# Altium integrated library Maxim Microcontroller.IntLib: 169 symbols (part 3 of 6)
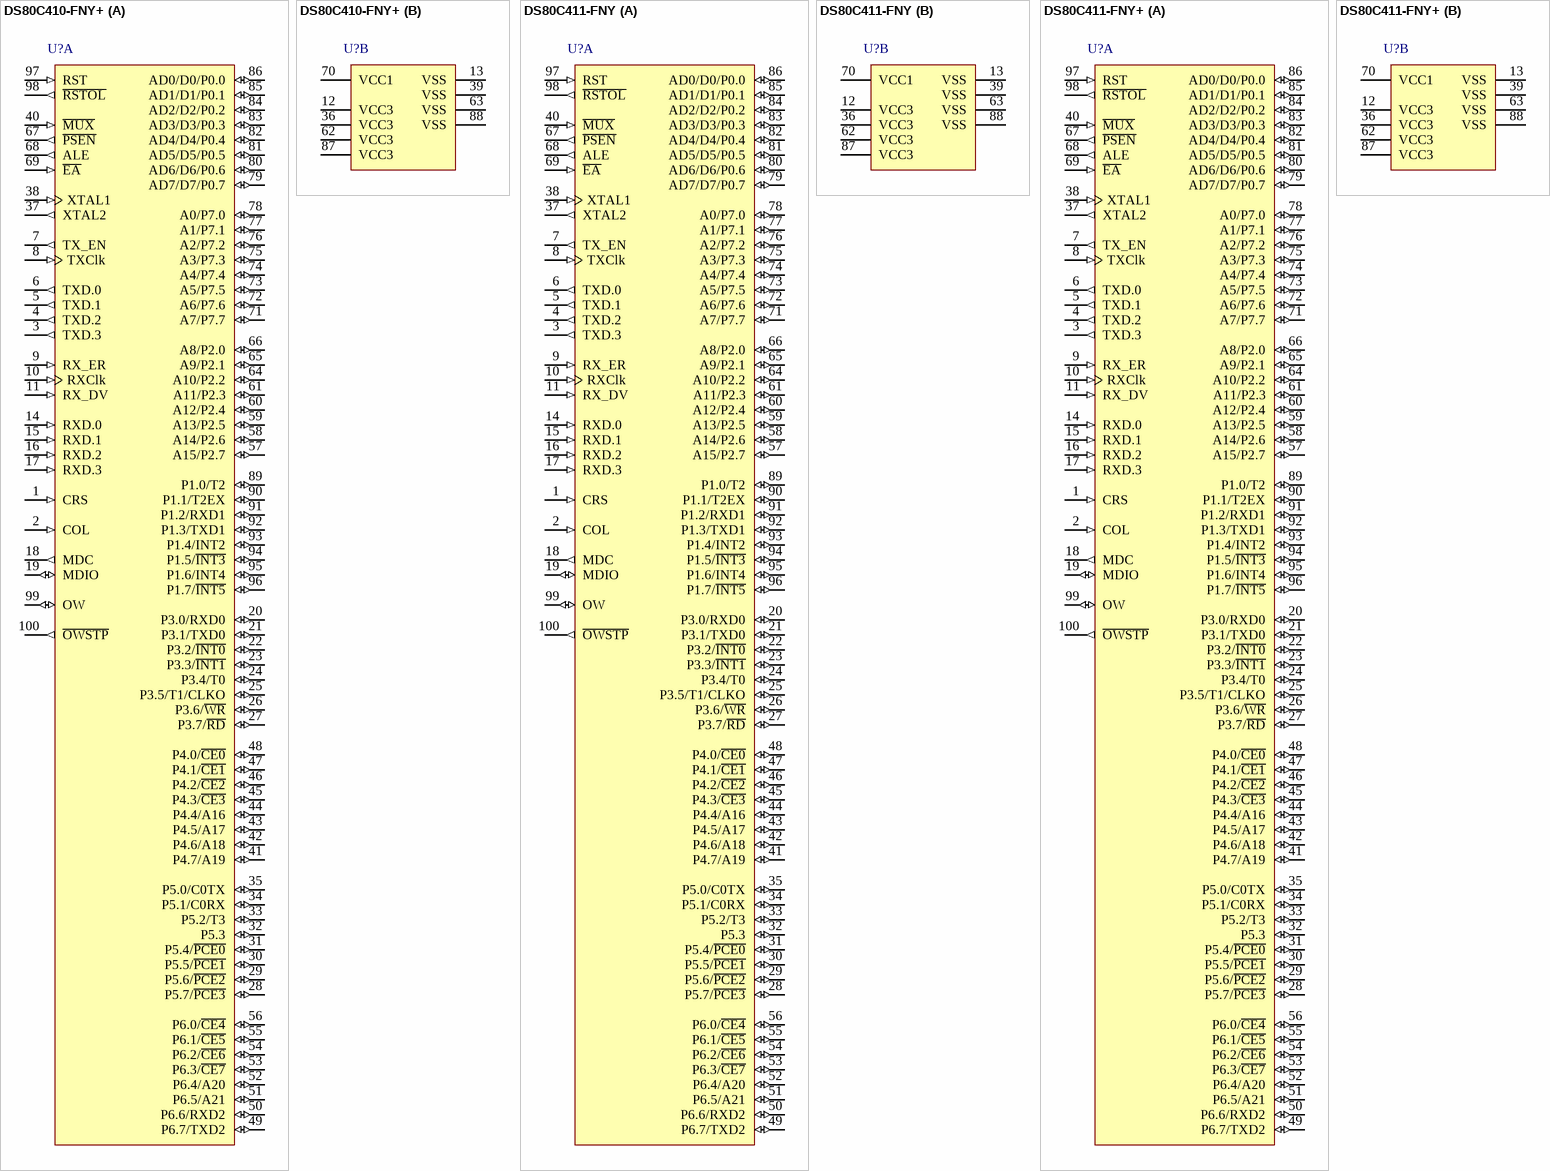
[diagram p26: symbols DS80C410-FNY+ to DS80C411-FNY+]

## DS80C411-FNY+
designator U?
8-bit Network Microcontroller with Ethernet and CAN, 75 MHz Max. Clock Speed, 100-pin LQFP, -40° to + 85° C, Pb-Free; DatasheetVersion: 1/06/2009; PackageVersion: revB, 2009; PackageReference: C100L+1; PackageDescription: 100-Pin Low Quad Flatpack, 14 x 14 x 1.4 mm Body, 0.5 mm Pitch, LQFP, Pb-Free; ComponentLink1Description: Manufacturer URL; ComponentLink1URL: www.maxim-ic.com; ComponentLink2Description: Datasheet; ComponentLink2URL: http://datasheets.maxim-ic.com/en/ds/DS80C410-DS80C411.pdf
footprint C100L+1_N (Thin QFP, 100-Leads, Body 14x14mm, Pitch 0.5mm, IPC Medium Density)
footprint C100L+1_L (Thin QFP, 100-Leads, Body 14x14mm, Pitch 0.5mm, IPC High Density)
footprint C100L+1_M (Thin QFP, 100-Leads, Body 14x14mm, Pitch 0.5mm, IPC Low Density)
part A pins: 1 CRS (in), 2 COL (in), 3 TXD.3 (out), 4 TXD.2 (out), 5 TXD.1 (out), 6 TXD.0 (out), 7 TX_EN (out), 8 TXClk (in), 9 RX_ER (in), 10 RXClk (in), 11 RX_DV (in), 14 RXD.0 (in), 15 RXD.1 (in), 16 RXD.2 (in), 17 RXD.3 (in), 18 MDC (out), 19 MDIO (io), 20 P3.0/RXD0 (io), 21 P3.1/TXD0 (io), 22 P3.2/~{INT0} (io), 23 P3.3/~{INT1} (io), 24 P3.4/T0 (io), 25 P3.5/T1/CLKO (io), 26 P3.6/~{WR} (io), 27 P3.7/~{RD} (io), 28 P5.7/~{PCE3} (io), 29 P5.6/~{PCE2} (io), 30 P5.5/~{PCE1} (io), 31 P5.4/~{PCE0} (io), 32 P5.3 (io), 33 P5.2/T3 (io), 34 P5.1/C0RX (io), 35 P5.0/C0TX (io), 37 XTAL2 (out), 38 XTAL1 (in), 40 ~{MUX} (in), 41 P4.7/A19 (io), 42 P4.6/A18 (io), 43 P4.5/A17 (io), 44 P4.4/A16 (io), 45 P4.3/~{CE3} (io), 46 P4.2/~{CE2} (io), 47 P4.1/~{CE1} (io), 48 P4.0/~{CE0} (io), 49 P6.7/TXD2 (io), 50 P6.6/RXD2 (io), 51 P6.5/A21 (io), 52 P6.4/A20 (io), 53 P6.3/~{CE7} (io), 54 P6.2/~{CE6} (io), 55 P6.1/~{CE5} (io), 56 P6.0/~{CE4} (io), 57 A15/P2.7 (io), 58 A14/P2.6 (io), 59 A13/P2.5 (io), 60 A12/P2.4 (io), 61 A11/P2.3 (io), 64 A10/P2.2 (io), 65 A9/P2.1 (io), 66 A8/P2.0 (io), 67 ~{PSEN} (out), 68 ALE (out), 69 ~{EA} (in), 71 A7/P7.7 (io), 72 A6/P7.6 (io), 73 A5/P7.5 (io), 74 A4/P7.4 (io), 75 A3/P7.3 (io), 76 A2/P7.2 (io), 77 A1/P7.1 (io), 78 A0/P7.0 (io), 79 AD7/D7/P0.7 (io), 80 AD6/D6/P0.6 (io), 81 AD5/D5/P0.5 (io), 82 AD4/D4/P0.4 (io), 83 AD3/D3/P0.3 (io), 84 AD2/D2/P0.2 (io), 85 AD1/D1/P0.1 (io), 86 AD0/D0/P0.0 (io), 89 P1.0/T2 (io), 90 P1.1/T2EX (io), 91 P1.2/RXD1 (io), 92 P1.3/TXD1 (io), 93 P1.4/INT2 (io), 94 P1.5/~{INT3} (io), 95 P1.6/INT4 (io), 96 P1.7/~{INT5} (io), 97 RST (in), 98 ~{RSTOL} (out), 99 OW (io), 100 ~{OWSTP} (out)
part B pins: 12 VCC3 (power), 13 VSS (power), 36 VCC3 (power), 39 VSS (power), 62 VCC3 (power), 63 VSS (power), 70 VCC1 (power), 87 VCC3 (power), 88 VSS (power)

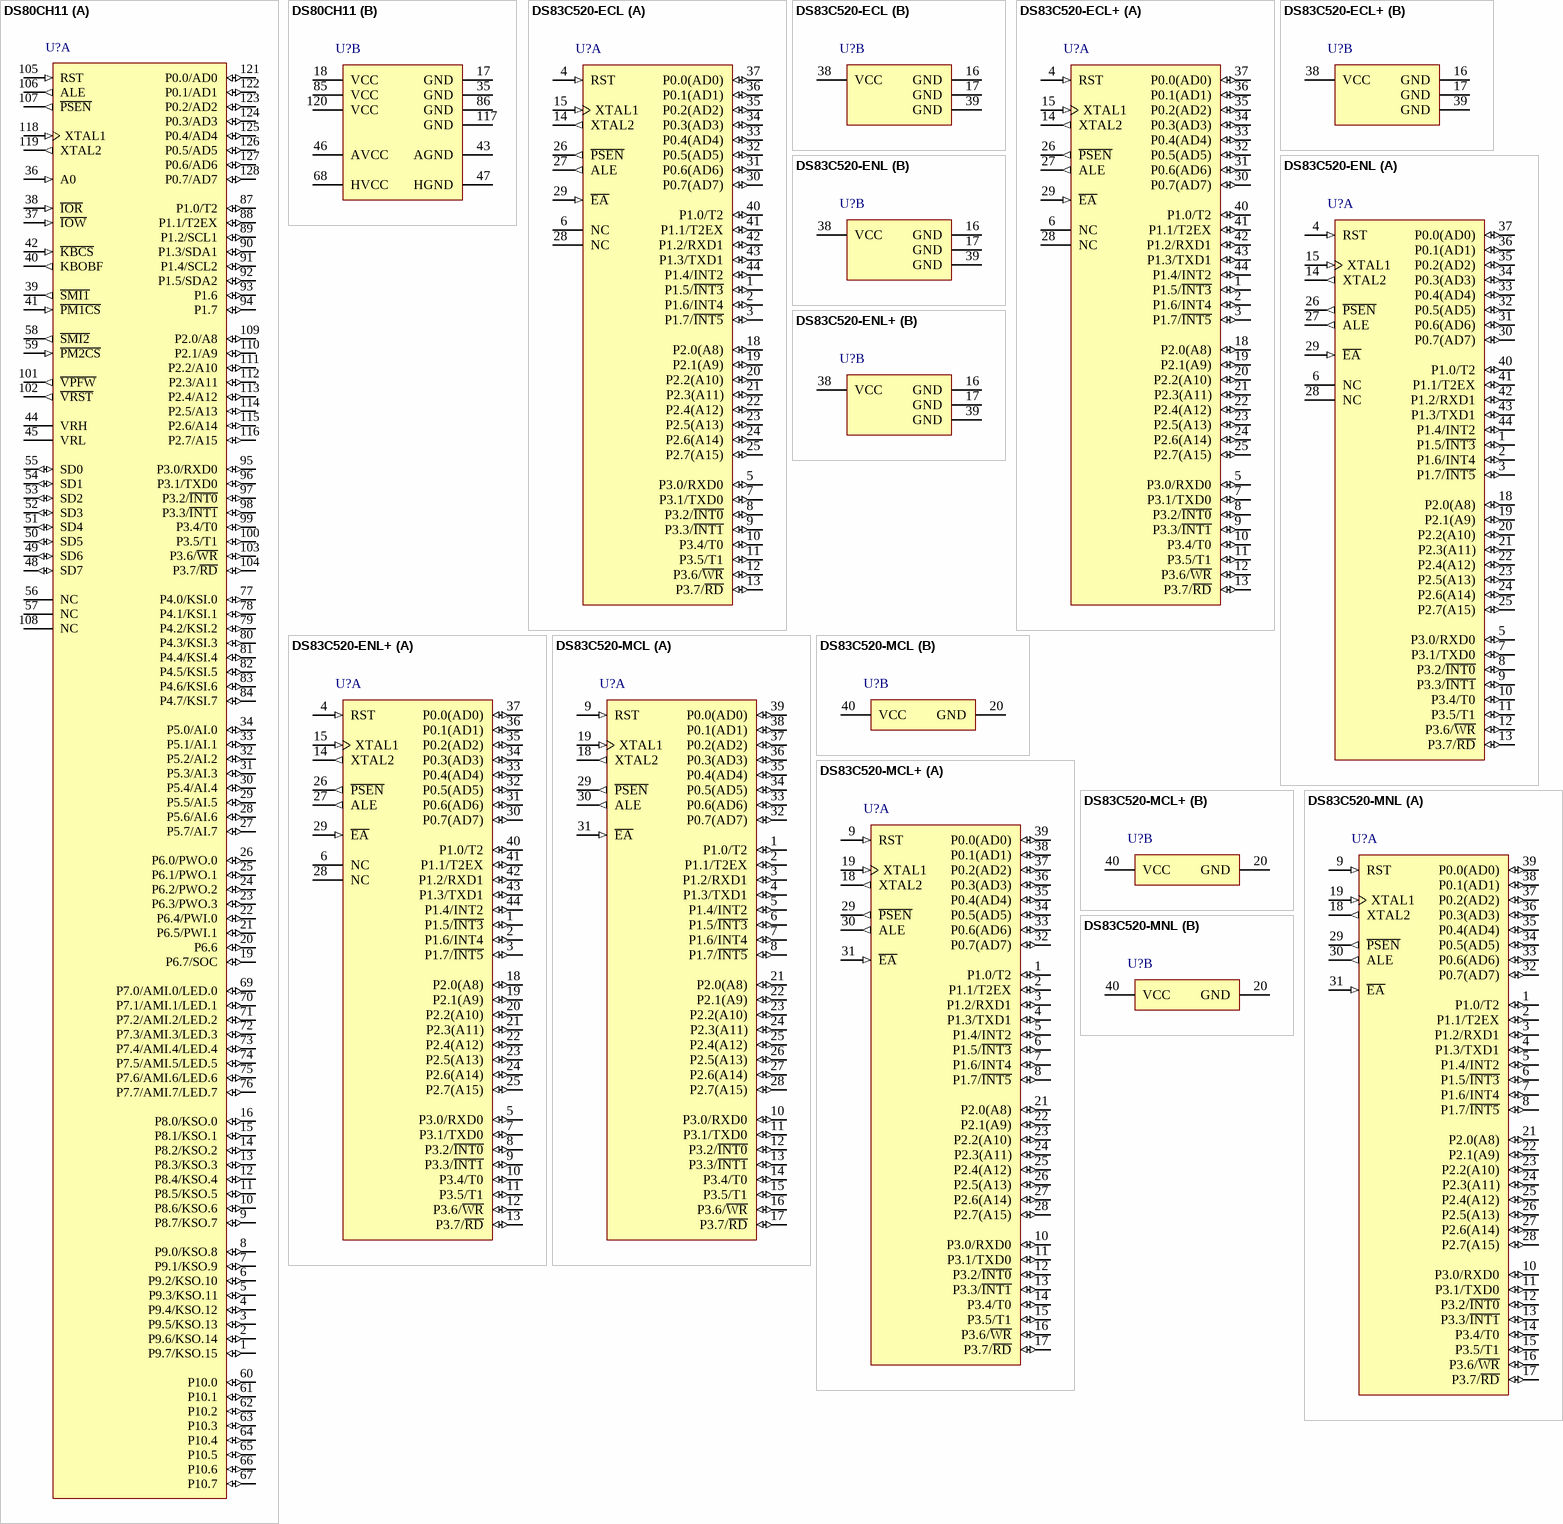
[diagram p9: symbols DS80CH11 to DS83C520-MNL]

## DS80CH11
designator U?
8-bit System Energy Manager, 25 MHz Max. Clock Speed, 12-pin 8 TQFP; DatasheetVersion: 1/02/2000; PackageVersion: 2/02/2000; PackageReference: TQFP128; PackageDescription: 128-Pin Thin Quad Flat Pack Rectangular 0.5 mm Pitch; ComponentLink1Description: Manufacturer URL; ComponentLink1URL: www.maxim-ic.com; ComponentLink2Description: Datasheet; ComponentLink2URL: http://datasheets.maxim-ic.com/en/ds/DS80CH11.pdf
footprint TQFP128_N (Thin QFP, 128-Leads, Body 20x14 mm, Pitch 0.5mm, IPC Medium Density)
footprint TQFP128_L (Thin QFP, 128-Leads, Body 20x14 mm, Pitch 0.5mm, IPC High Density)
footprint TQFP128_M (Thin QFP, 128-Leads, Body 20x14 mm, Pitch 0.5mm, IPC Low Density)
part A pins: 1 P9.7/KSO.15 (io), 2 P9.6/KSO.14 (io), 3 P9.5/KSO.13 (io), 4 P9.4/KSO.12 (io), 5 P9.3/KSO.11 (io), 6 P9.2/KSO.10 (io), 7 P9.1/KSO.9 (io), 8 P9.0/KSO.8 (io), 9 P8.7/KSO.7 (io), 10 P8.6/KSO.6 (io), 11 P8.5/KSO.5 (io), 12 P8.4/KSO.4 (io), 13 P8.3/KSO.3 (io), 14 P8.2/KSO.2 (io), 15 P8.1/KSO.1 (io), 16 P8.0/KSO.0 (io), 19 P6.7/SOC (io), 20 P6.6 (io), 21 P6.5/PWI.1 (io), 22 P6.4/PWI.0 (io), 23 P6.3/PWO.3 (io), 24 P6.2/PWO.2 (io), 25 P6.1/PWO.1 (io), 26 P6.0/PWO.0 (io), 27 P5.7/AI.7 (io), 28 P5.6/AI.6 (io), 29 P5.5/AI.5 (io), 30 P5.4/AI.4 (io), 31 P5.3/AI.3 (io), 32 P5.2/AI.2 (io), 33 P5.1/AI.1 (io), 34 P5.0/AI.0 (io), 36 A0 (in), 37 ~{IOW} (in), 38 ~{IOR} (in), 39 ~{SMI1} (out), 40 KBOBF (out), 41 ~{PM1CS} (in), 42 ~{KBCS} (in), 44 VRH, 45 VRL, 48 SD7 (io), 49 SD6 (io), 50 SD5 (io), 51 SD4 (io), 52 SD3 (io), 53 SD2 (io), 54 SD1 (io), 55 SD0 (io), 56 NC, 57 NC, 58 ~{SMI2} (out), 59 ~{PM2CS} (in), 60 P10.0 (io), 61 P10.1 (io), 62 P10.2 (io), 63 P10.3 (io), 64 P10.4 (io), 65 P10.5 (io), 66 P10.6 (io), 67 P10.7 (io), 69 P7.0/AMI.0/LED.0 (io), 70 P7.1/AMI.1/LED.1 (io), 71 P7.2/AMI.2/LED.2 (io), 72 P7.3/AMI.3/LED.3 (io), 73 P7.4/AMI.4/LED.4 (io), 74 P7.5/AMI.5/LED.5 (io), 75 P7.6/AMI.6/LED.6 (io), 76 P7.7/AMI.7/LED.7 (io), 77 P4.0/KSI.0 (io), 78 P4.1/KSI.1 (io), 79 P4.2/KSI.2 (io), 80 P4.3/KSI.3 (io), 81 P4.4/KSI.4 (io), 82 P4.5/KSI.5 (io), 83 P4.6/KSI.6 (io), 84 P4.7/KSI.7 (io), 87 P1.0/T2 (io), 88 P1.1/T2EX (io), 89 P1.2/SCL1 (io), 90 P1.3/SDA1 (io), 91 P1.4/SCL2 (io), 92 P1.5/SDA2 (io), 93 P1.6 (io), 94 P1.7 (io), 95 P3.0/RXD0 (io), 96 P3.1/TXD0 (io), 97 P3.2/~{INT0} (io), 98 P3.3/~{INT1} (io), 99 P3.4/T0 (io), 100 P3.5/T1 (io), 101 ~{VPFW} (out), 102 ~{VRST} (out), 103 P3.6/~{WR} (io), 104 P3.7/~{RD} (io), 105 RST (in), 106 ALE (out), 107 ~{PSEN} (out), 108 NC, 109 P2.0/A8 (io), 110 P2.1/A9 (io), 111 P2.2/A10 (io), 112 P2.3/A11 (io), 113 P2.4/A12 (io), 114 P2.5/A13 (io), 115 P2.6/A14 (io), 116 P2.7/A15 (io), 118 XTAL1 (in), 119 XTAL2 (out), 121 P0.0/AD0 (io), 122 P0.1/AD1 (io), 123 P0.2/AD2 (io), 124 P0.3/AD3 (io), 125 P0.4/AD4 (io), 126 P0.5/AD5 (io), 127 P0.6/AD6 (io), 128 P0.7/AD7 (io)
part B pins: 17 GND (power), 18 VCC (power), 35 GND (power), 43 AGND (power), 46 AVCC (power), 47 HGND (power), 68 HVCC (power), 85 VCC (power), 86 GND (power), 117 GND (power), 120 VCC (power)

## DS83C520-ECL
designator U?
8-bit EPROM/ROM High-Speed Microcontroller, 33 MHz Max. Clock Speed, 44-pin TQFP, 0° to + 70° C; DatasheetVersion: 1/05/2009; PackageVersion: revB, 2010; PackageReference: C44-3; PackageDescription: 44-Pin Thin Quad Flatpack, 10 x 10 x 1.0 mm Body, 0.8 mm Pitch, TQFP; ComponentLink1Description: Manufacturer URL; ComponentLink1URL: www.maxim-ic.com; ComponentLink2Description: Datasheet; ComponentLink2URL: http://datasheets.maxim-ic.com/en/ds/DS83C520-DS87C520.pdf
footprint C44-3_N (Thin QFP, 44-Leads, Body 10x10mm, Pitch 0.8mm, IPC Medium Density)
footprint C44-3_L (Thin QFP, 44-Leads, Body 10x10mm, Pitch 0.8mm, IPC High Density)
footprint C44-3_M (Thin QFP, 44-Leads, Body 10x10mm, Pitch 0.8mm, IPC Low Density)
part A pins: 1 P1.5/~{INT3} (io), 2 P1.6/INT4 (io), 3 P1.7/~{INT5} (io), 4 RST (in), 5 P3.0/RXD0 (io), 6 NC, 7 P3.1/TXD0 (io), 8 P3.2/~{INT0} (io), 9 P3.3/~{INT1} (io), 10 P3.4/T0 (io), 11 P3.5/T1 (io), 12 P3.6/~{WR} (io), 13 P3.7/~{RD} (io), 14 XTAL2 (out), 15 XTAL1 (in), 18 P2.0(A8) (io), 19 P2.1(A9) (io), 20 P2.2(A10) (io), 21 P2.3(A11) (io), 22 P2.4(A12) (io), 23 P2.5(A13) (io), 24 P2.6(A14) (io), 25 P2.7(A15) (io), 26 ~{PSEN} (out), 27 ALE (out), 28 NC, 29 ~{EA} (in), 30 P0.7(AD7) (io), 31 P0.6(AD6) (io), 32 P0.5(AD5) (io), 33 P0.4(AD4) (io), 34 P0.3(AD3) (io), 35 P0.2(AD2) (io), 36 P0.1(AD1) (io), 37 P0.0(AD0) (io), 40 P1.0/T2 (io), 41 P1.1/T2EX (io), 42 P1.2/RXD1 (io), 43 P1.3/TXD1 (io), 44 P1.4/INT2 (io)
part B pins: 16 GND (power), 17 GND (power), 38 VCC (power), 39 GND (power)

## DS83C520-ECL+
designator U?
8-bit EPROM/ROM High-Speed Microcontroller, 33 MHz Max. Clock Speed, 44-pin TQFP, 0° to + 70° C, Pb-Free; DatasheetVersion: 1/05/2009; PackageVersion: revB, 2010; PackageReference: C44+3; PackageDescription: 44-Pin Thin Quad Flatpack, 10 x 10 x 1.0 mm Body, 0.8 mm Pitch, TQFP, Pb-Free; ComponentLink1Description: Manufacturer URL; ComponentLink1URL: www.maxim-ic.com; ComponentLink2Description: Datasheet; ComponentLink2URL: http://datasheets.maxim-ic.com/en/ds/DS83C520-DS87C520.pdf
footprint C44+3_N (Thin QFP, 44-Leads, Body 10x10mm, Pitch 0.8mm, IPC Medium Density)
footprint C44+3_L (Thin QFP, 44-Leads, Body 10x10mm, Pitch 0.8mm, IPC High Density)
footprint C44+3_M (Thin QFP, 44-Leads, Body 10x10mm, Pitch 0.8mm, IPC Low Density)
part A pins: 1 P1.5/~{INT3} (io), 2 P1.6/INT4 (io), 3 P1.7/~{INT5} (io), 4 RST (in), 5 P3.0/RXD0 (io), 6 NC, 7 P3.1/TXD0 (io), 8 P3.2/~{INT0} (io), 9 P3.3/~{INT1} (io), 10 P3.4/T0 (io), 11 P3.5/T1 (io), 12 P3.6/~{WR} (io), 13 P3.7/~{RD} (io), 14 XTAL2 (out), 15 XTAL1 (in), 18 P2.0(A8) (io), 19 P2.1(A9) (io), 20 P2.2(A10) (io), 21 P2.3(A11) (io), 22 P2.4(A12) (io), 23 P2.5(A13) (io), 24 P2.6(A14) (io), 25 P2.7(A15) (io), 26 ~{PSEN} (out), 27 ALE (out), 28 NC, 29 ~{EA} (in), 30 P0.7(AD7) (io), 31 P0.6(AD6) (io), 32 P0.5(AD5) (io), 33 P0.4(AD4) (io), 34 P0.3(AD3) (io), 35 P0.2(AD2) (io), 36 P0.1(AD1) (io), 37 P0.0(AD0) (io), 40 P1.0/T2 (io), 41 P1.1/T2EX (io), 42 P1.2/RXD1 (io), 43 P1.3/TXD1 (io), 44 P1.4/INT2 (io)
part B pins: 16 GND (power), 17 GND (power), 38 VCC (power), 39 GND (power)

## DS83C520-ENL
designator U?
8-bit EPROM/ROM High-Speed Microcontroller, 33 MHz Max. Clock Speed, 44-pin TQFP, -40° to + 85° C; DatasheetVersion: 1/05/2009; PackageVersion: revB, 2010; PackageReference: C44-3; PackageDescription: 44-Pin Thin Quad Flatpack, 10 x 10 x 1.0 mm Body, 0.8 mm Pitch, TQFP; ComponentLink1Description: Manufacturer URL; ComponentLink1URL: www.maxim-ic.com; ComponentLink2Description: Datasheet; ComponentLink2URL: http://datasheets.maxim-ic.com/en/ds/DS83C520-DS87C520.pdf
footprint C44-3_N (Thin QFP, 44-Leads, Body 10x10mm, Pitch 0.8mm, IPC Medium Density)
footprint C44-3_L (Thin QFP, 44-Leads, Body 10x10mm, Pitch 0.8mm, IPC High Density)
footprint C44-3_M (Thin QFP, 44-Leads, Body 10x10mm, Pitch 0.8mm, IPC Low Density)
part A pins: 1 P1.5/~{INT3} (io), 2 P1.6/INT4 (io), 3 P1.7/~{INT5} (io), 4 RST (in), 5 P3.0/RXD0 (io), 6 NC, 7 P3.1/TXD0 (io), 8 P3.2/~{INT0} (io), 9 P3.3/~{INT1} (io), 10 P3.4/T0 (io), 11 P3.5/T1 (io), 12 P3.6/~{WR} (io), 13 P3.7/~{RD} (io), 14 XTAL2 (out), 15 XTAL1 (in), 18 P2.0(A8) (io), 19 P2.1(A9) (io), 20 P2.2(A10) (io), 21 P2.3(A11) (io), 22 P2.4(A12) (io), 23 P2.5(A13) (io), 24 P2.6(A14) (io), 25 P2.7(A15) (io), 26 ~{PSEN} (out), 27 ALE (out), 28 NC, 29 ~{EA} (in), 30 P0.7(AD7) (io), 31 P0.6(AD6) (io), 32 P0.5(AD5) (io), 33 P0.4(AD4) (io), 34 P0.3(AD3) (io), 35 P0.2(AD2) (io), 36 P0.1(AD1) (io), 37 P0.0(AD0) (io), 40 P1.0/T2 (io), 41 P1.1/T2EX (io), 42 P1.2/RXD1 (io), 43 P1.3/TXD1 (io), 44 P1.4/INT2 (io)
part B pins: 16 GND (power), 17 GND (power), 38 VCC (power), 39 GND (power)

## DS83C520-ENL+
designator U?
8-bit EPROM/ROM High-Speed Microcontroller, 33 MHz Max. Clock Speed, 44-pin TQFP, -40° to + 85° C, Pb-Free; DatasheetVersion: 1/05/2009; PackageVersion: revB, 2010; PackageReference: C44+3; PackageDescription: 44-Pin Thin Quad Flatpack, 10 x 10 x 1.0 mm Body, 0.8 mm Pitch, TQFP, Pb-Free; ComponentLink1Description: Manufacturer URL; ComponentLink1URL: www.maxim-ic.com; ComponentLink2Description: Datasheet; ComponentLink2URL: http://datasheets.maxim-ic.com/en/ds/DS83C520-DS87C520.pdf
footprint C44+3_N (Thin QFP, 44-Leads, Body 10x10mm, Pitch 0.8mm, IPC Medium Density)
footprint C44+3_L (Thin QFP, 44-Leads, Body 10x10mm, Pitch 0.8mm, IPC High Density)
footprint C44+3_M (Thin QFP, 44-Leads, Body 10x10mm, Pitch 0.8mm, IPC Low Density)
part A pins: 1 P1.5/~{INT3} (io), 2 P1.6/INT4 (io), 3 P1.7/~{INT5} (io), 4 RST (in), 5 P3.0/RXD0 (io), 6 NC, 7 P3.1/TXD0 (io), 8 P3.2/~{INT0} (io), 9 P3.3/~{INT1} (io), 10 P3.4/T0 (io), 11 P3.5/T1 (io), 12 P3.6/~{WR} (io), 13 P3.7/~{RD} (io), 14 XTAL2 (out), 15 XTAL1 (in), 18 P2.0(A8) (io), 19 P2.1(A9) (io), 20 P2.2(A10) (io), 21 P2.3(A11) (io), 22 P2.4(A12) (io), 23 P2.5(A13) (io), 24 P2.6(A14) (io), 25 P2.7(A15) (io), 26 ~{PSEN} (out), 27 ALE (out), 28 NC, 29 ~{EA} (in), 30 P0.7(AD7) (io), 31 P0.6(AD6) (io), 32 P0.5(AD5) (io), 33 P0.4(AD4) (io), 34 P0.3(AD3) (io), 35 P0.2(AD2) (io), 36 P0.1(AD1) (io), 37 P0.0(AD0) (io), 40 P1.0/T2 (io), 41 P1.1/T2EX (io), 42 P1.2/RXD1 (io), 43 P1.3/TXD1 (io), 44 P1.4/INT2 (io)
part B pins: 16 GND (power), 17 GND (power), 38 VCC (power), 39 GND (power)

## DS83C520-MCL
designator U?
8-bit EPROM/ROM High-Speed Microcontroller, 33 MHz Max. Clock Speed, 40-pin Plastic DIP, 0° to + 70° C; DatasheetVersion: 1/05/2009; PackageVersion: revD, 2011; PackageReference: P40-4; PackageDescription: 40-Pin Plastic Dual-In-Line, 0.6in Wide, PDIP(W); Code_JEDEC: MS-011-AC; ComponentLink1Description: Manufacturer URL; ComponentLink1URL: www.maxim-ic.com; ComponentLink2Description: Datasheet; ComponentLink2URL: http://datasheets.maxim-ic.com/en/ds/DS83C520-DS87C520.pdf
footprint P40-4 (DIP, 40-Leads, Row Spacing 15.24mm, Pitch 2.54mm, Body 52.1x14mm)
part A pins: 1 P1.0/T2 (io), 2 P1.1/T2EX (io), 3 P1.2/RXD1 (io), 4 P1.3/TXD1 (io), 5 P1.4/INT2 (io), 6 P1.5/~{INT3} (io), 7 P1.6/INT4 (io), 8 P1.7/~{INT5} (io), 9 RST (in), 10 P3.0/RXD0 (io), 11 P3.1/TXD0 (io), 12 P3.2/~{INT0} (io), 13 P3.3/~{INT1} (io), 14 P3.4/T0 (io), 15 P3.5/T1 (io), 16 P3.6/~{WR} (io), 17 P3.7/~{RD} (io), 18 XTAL2 (out), 19 XTAL1 (in), 21 P2.0(A8) (io), 22 P2.1(A9) (io), 23 P2.2(A10) (io), 24 P2.3(A11) (io), 25 P2.4(A12) (io), 26 P2.5(A13) (io), 27 P2.6(A14) (io), 28 P2.7(A15) (io), 29 ~{PSEN} (out), 30 ALE (out), 31 ~{EA} (in), 32 P0.7(AD7) (io), 33 P0.6(AD6) (io), 34 P0.5(AD5) (io), 35 P0.4(AD4) (io), 36 P0.3(AD3) (io), 37 P0.2(AD2) (io), 38 P0.1(AD1) (io), 39 P0.0(AD0) (io)
part B pins: 20 GND (power), 40 VCC (power)

## DS83C520-MCL+
designator U?
8-bit EPROM/ROM High-Speed Microcontroller, 33 MHz Max. Clock Speed, 40-pin Plastic DIP, 0° to + 70° C, Pb-Free; DatasheetVersion: 1/05/2009; PackageVersion: revD, 2011; PackageReference: P40+4; PackageDescription: 40-Pin Plastic Dual-In-Line, 0.6in Wide, PDIP(W), Pb-Free; Code_JEDEC: MS-011-AC; ComponentLink1Description: Manufacturer URL; ComponentLink1URL: www.maxim-ic.com; ComponentLink2Description: Datasheet; ComponentLink2URL: http://datasheets.maxim-ic.com/en/ds/DS83C520-DS87C520.pdf
footprint P40+4 (DIP, 40-Leads, Row Spacing 15.24mm, Pitch 2.54mm, Body 52.1x14mm)
part A pins: 1 P1.0/T2 (io), 2 P1.1/T2EX (io), 3 P1.2/RXD1 (io), 4 P1.3/TXD1 (io), 5 P1.4/INT2 (io), 6 P1.5/~{INT3} (io), 7 P1.6/INT4 (io), 8 P1.7/~{INT5} (io), 9 RST (in), 10 P3.0/RXD0 (io), 11 P3.1/TXD0 (io), 12 P3.2/~{INT0} (io), 13 P3.3/~{INT1} (io), 14 P3.4/T0 (io), 15 P3.5/T1 (io), 16 P3.6/~{WR} (io), 17 P3.7/~{RD} (io), 18 XTAL2 (out), 19 XTAL1 (in), 21 P2.0(A8) (io), 22 P2.1(A9) (io), 23 P2.2(A10) (io), 24 P2.3(A11) (io), 25 P2.4(A12) (io), 26 P2.5(A13) (io), 27 P2.6(A14) (io), 28 P2.7(A15) (io), 29 ~{PSEN} (out), 30 ALE (out), 31 ~{EA} (in), 32 P0.7(AD7) (io), 33 P0.6(AD6) (io), 34 P0.5(AD5) (io), 35 P0.4(AD4) (io), 36 P0.3(AD3) (io), 37 P0.2(AD2) (io), 38 P0.1(AD1) (io), 39 P0.0(AD0) (io)
part B pins: 20 GND (power), 40 VCC (power)

## DS83C520-MNL
designator U?
8-bit EPROM/ROM High-Speed Microcontroller, 33 MHz Max. Clock Speed, 40-pin Plastic DIP, -40° to + 85° C; DatasheetVersion: 1/05/2009; PackageVersion: revD, 2011; PackageReference: P40-4; PackageDescription: 40-Pin Plastic Dual-In-Line, 0.6in Wide, PDIP(W); Code_JEDEC: MS-011-AC; ComponentLink1Description: Manufacturer URL; ComponentLink1URL: www.maxim-ic.com; ComponentLink2Description: Datasheet; ComponentLink2URL: http://datasheets.maxim-ic.com/en/ds/DS83C520-DS87C520.pdf
footprint P40-4 (DIP, 40-Leads, Row Spacing 15.24mm, Pitch 2.54mm, Body 52.1x14mm)
part A pins: 1 P1.0/T2 (io), 2 P1.1/T2EX (io), 3 P1.2/RXD1 (io), 4 P1.3/TXD1 (io), 5 P1.4/INT2 (io), 6 P1.5/~{INT3} (io), 7 P1.6/INT4 (io), 8 P1.7/~{INT5} (io), 9 RST (in), 10 P3.0/RXD0 (io), 11 P3.1/TXD0 (io), 12 P3.2/~{INT0} (io), 13 P3.3/~{INT1} (io), 14 P3.4/T0 (io), 15 P3.5/T1 (io), 16 P3.6/~{WR} (io), 17 P3.7/~{RD} (io), 18 XTAL2 (out), 19 XTAL1 (in), 21 P2.0(A8) (io), 22 P2.1(A9) (io), 23 P2.2(A10) (io), 24 P2.3(A11) (io), 25 P2.4(A12) (io), 26 P2.5(A13) (io), 27 P2.6(A14) (io), 28 P2.7(A15) (io), 29 ~{PSEN} (out), 30 ALE (out), 31 ~{EA} (in), 32 P0.7(AD7) (io), 33 P0.6(AD6) (io), 34 P0.5(AD5) (io), 35 P0.4(AD4) (io), 36 P0.3(AD3) (io), 37 P0.2(AD2) (io), 38 P0.1(AD1) (io), 39 P0.0(AD0) (io)
part B pins: 20 GND (power), 40 VCC (power)

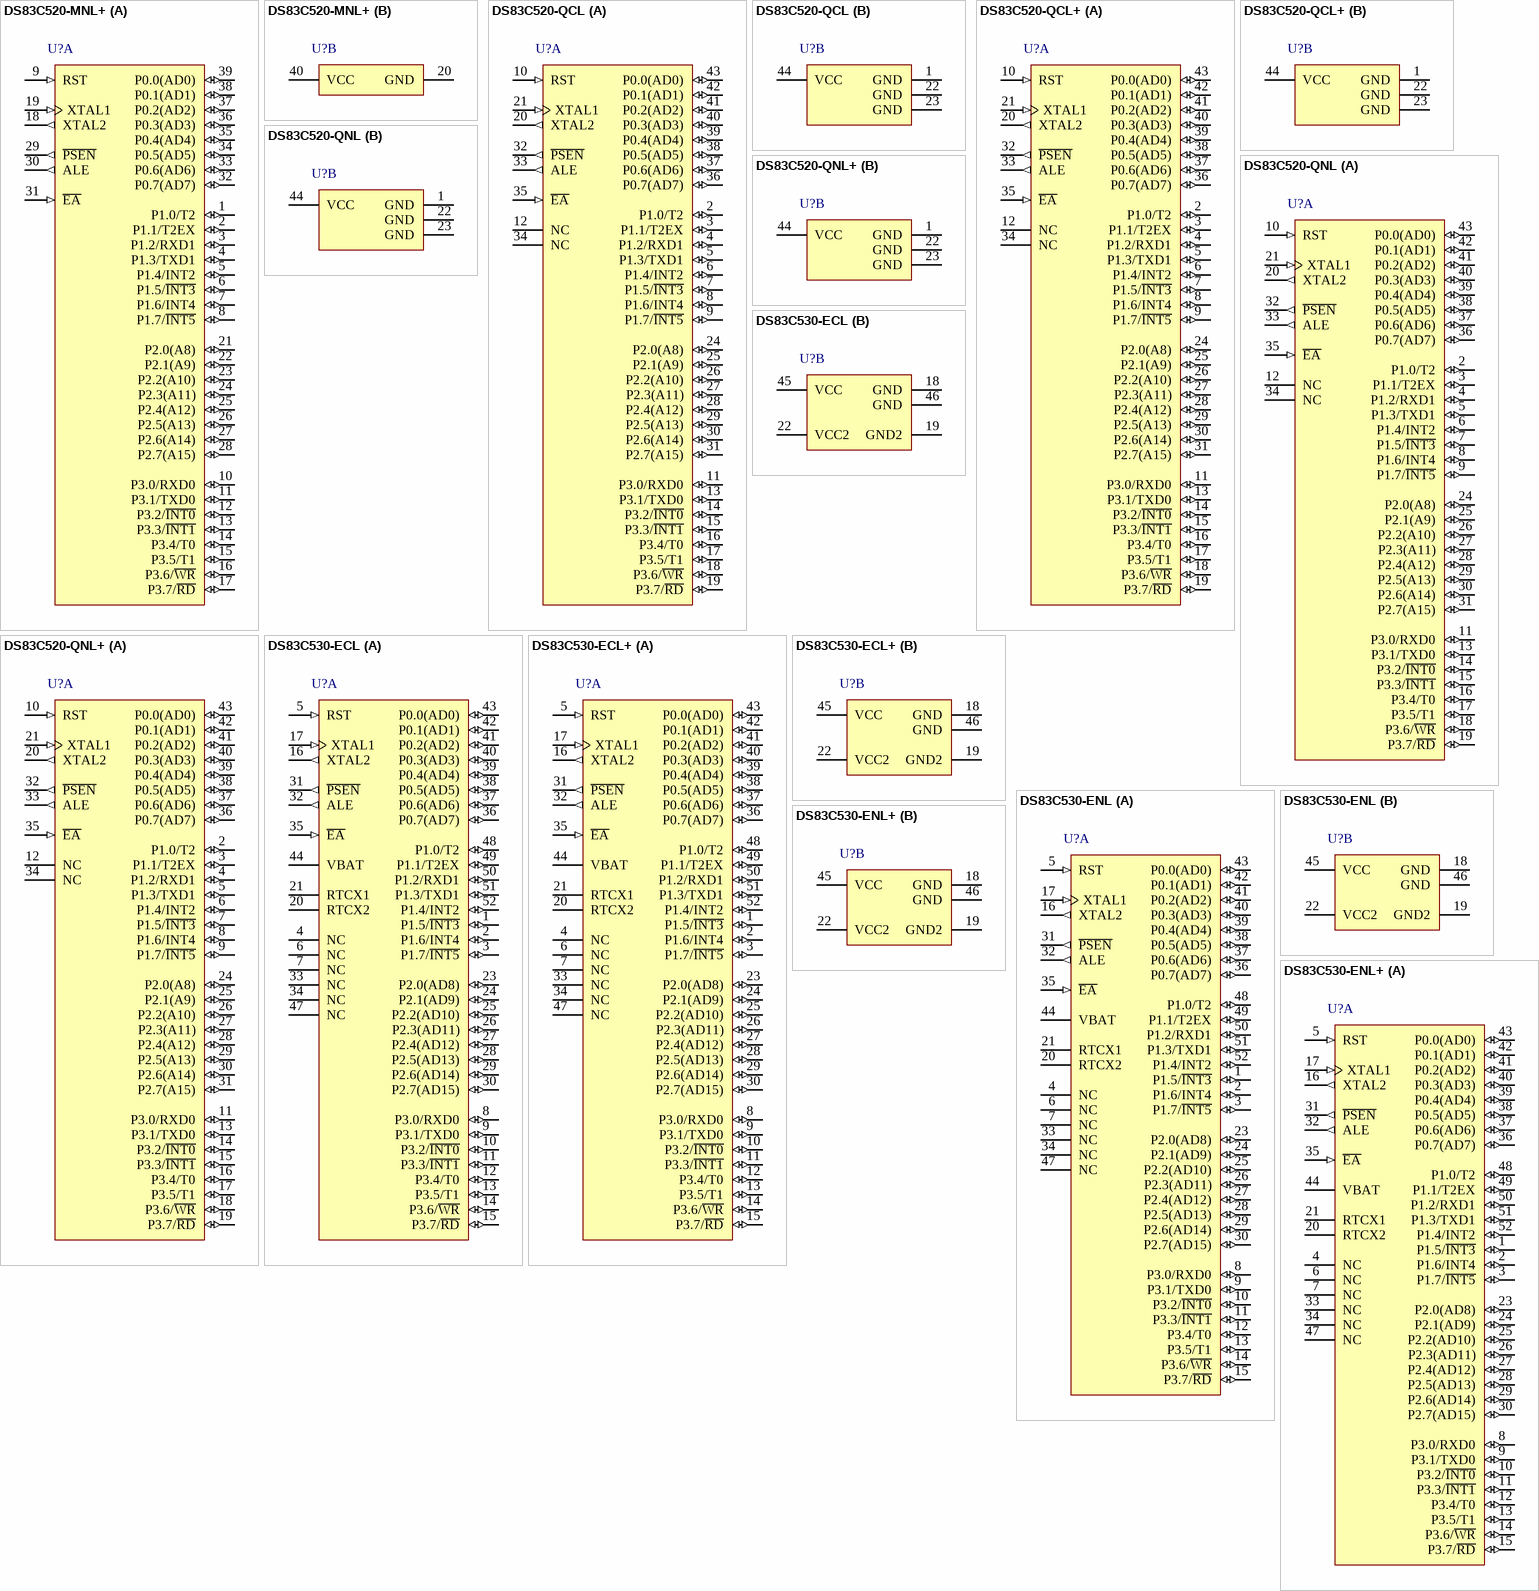
[diagram p10: symbols DS83C520-MNL+ to DS83C530-ENL+]

## DS83C520-MNL+
designator U?
8-bit EPROM/ROM High-Speed Microcontroller, 33 MHz Max. Clock Speed, 40-pin Plastic DIP, -40° to + 85° C, Pb-Free; DatasheetVersion: 1/05/2009; PackageVersion: revD, 2011; PackageReference: P40+4; PackageDescription: 40-Pin Plastic Dual-In-Line, 0.6in Wide, PDIP(W), Pb-Free; Code_JEDEC: MS-011-AC; ComponentLink1Description: Manufacturer URL; ComponentLink1URL: www.maxim-ic.com; ComponentLink2Description: Datasheet; ComponentLink2URL: http://datasheets.maxim-ic.com/en/ds/DS83C520-DS87C520.pdf
footprint P40+4 (DIP, 40-Leads, Row Spacing 15.24mm, Pitch 2.54mm, Body 52.1x14mm)
part A pins: 1 P1.0/T2 (io), 2 P1.1/T2EX (io), 3 P1.2/RXD1 (io), 4 P1.3/TXD1 (io), 5 P1.4/INT2 (io), 6 P1.5/~{INT3} (io), 7 P1.6/INT4 (io), 8 P1.7/~{INT5} (io), 9 RST (in), 10 P3.0/RXD0 (io), 11 P3.1/TXD0 (io), 12 P3.2/~{INT0} (io), 13 P3.3/~{INT1} (io), 14 P3.4/T0 (io), 15 P3.5/T1 (io), 16 P3.6/~{WR} (io), 17 P3.7/~{RD} (io), 18 XTAL2 (out), 19 XTAL1 (in), 21 P2.0(A8) (io), 22 P2.1(A9) (io), 23 P2.2(A10) (io), 24 P2.3(A11) (io), 25 P2.4(A12) (io), 26 P2.5(A13) (io), 27 P2.6(A14) (io), 28 P2.7(A15) (io), 29 ~{PSEN} (out), 30 ALE (out), 31 ~{EA} (in), 32 P0.7(AD7) (io), 33 P0.6(AD6) (io), 34 P0.5(AD5) (io), 35 P0.4(AD4) (io), 36 P0.3(AD3) (io), 37 P0.2(AD2) (io), 38 P0.1(AD1) (io), 39 P0.0(AD0) (io)
part B pins: 20 GND (power), 40 VCC (power)

## DS83C520-QCL
designator U?
8-bit EPROM/ROM High-Speed Microcontroller, 33 MHz Max. Clock Speed, 44-pin PLCC, 0° to + 70° C; DatasheetVersion: 1/05/2009; PackageVersion: revE, 2009; PackageReference: Q44-9; PackageDescription: 44-Pin Plastic Leaded Chip Carrier 1.27 mm Pitch, PLCC; Code_JEDEC: MO-047-AC; Code_IPC: PLCC-44; ComponentLink1Description: Manufacturer URL; ComponentLink1URL: www.maxim-ic.com; ComponentLink2Description: Datasheet; ComponentLink2URL: http://datasheets.maxim-ic.com/en/ds/DS83C520-DS87C520.pdf
footprint Q44-9_N (Leaded Chip Carrier, 44-Leads, Body 16.6x16.6mm, Pitch 1.27mm, IPC Medium Density)
footprint Q44-9_L (Leaded Chip Carrier, 44-Leads, Body 16.6x16.6mm, Pitch 1.27mm, IPC High Density)
footprint Q44-9_M (Leaded Chip Carrier, 44-Leads, Body 16.6x16.6mm, Pitch 1.27mm, IPC Low Density)
part A pins: 2 P1.0/T2 (io), 3 P1.1/T2EX (io), 4 P1.2/RXD1 (io), 5 P1.3/TXD1 (io), 6 P1.4/INT2 (io), 7 P1.5/~{INT3} (io), 8 P1.6/INT4 (io), 9 P1.7/~{INT5} (io), 10 RST (in), 11 P3.0/RXD0 (io), 12 NC, 13 P3.1/TXD0 (io), 14 P3.2/~{INT0} (io), 15 P3.3/~{INT1} (io), 16 P3.4/T0 (io), 17 P3.5/T1 (io), 18 P3.6/~{WR} (io), 19 P3.7/~{RD} (io), 20 XTAL2 (out), 21 XTAL1 (in), 24 P2.0(A8) (io), 25 P2.1(A9) (io), 26 P2.2(A10) (io), 27 P2.3(A11) (io), 28 P2.4(A12) (io), 29 P2.5(A13) (io), 30 P2.6(A14) (io), 31 P2.7(A15) (io), 32 ~{PSEN} (out), 33 ALE (out), 34 NC, 35 ~{EA} (in), 36 P0.7(AD7) (io), 37 P0.6(AD6) (io), 38 P0.5(AD5) (io), 39 P0.4(AD4) (io), 40 P0.3(AD3) (io), 41 P0.2(AD2) (io), 42 P0.1(AD1) (io), 43 P0.0(AD0) (io)
part B pins: 1 GND (power), 22 GND (power), 23 GND (power), 44 VCC (power)

## DS83C520-QCL+
designator U?
8-bit EPROM/ROM High-Speed Microcontroller, 33 MHz Max. Clock Speed, 44-pin PLCC, 0° to + 70° C, Pb-Free; DatasheetVersion: 1/05/2009; PackageVersion: revE, 2009; PackageReference: Q44+9; PackageDescription: 44-Pin Plastic Leaded Chip Carrier 1.27 mm Pitch, PLCC, Pb-Free; Code_JEDEC: MO-047-AC; Code_IPC: PLCC-44; ComponentLink1Description: Manufacturer URL; ComponentLink1URL: www.maxim-ic.com; ComponentLink2Description: Datasheet; ComponentLink2URL: http://datasheets.maxim-ic.com/en/ds/DS83C520-DS87C520.pdf
footprint Q44+9_N (Leaded Chip Carrier, 44-Leads, Body 16.6x16.6mm, Pitch 1.27mm, IPC Medium Density)
footprint Q44+9_L (Leaded Chip Carrier, 44-Leads, Body 16.6x16.6mm, Pitch 1.27mm, IPC High Density)
footprint Q44+9_M (Leaded Chip Carrier, 44-Leads, Body 16.6x16.6mm, Pitch 1.27mm, IPC Low Density)
part A pins: 2 P1.0/T2 (io), 3 P1.1/T2EX (io), 4 P1.2/RXD1 (io), 5 P1.3/TXD1 (io), 6 P1.4/INT2 (io), 7 P1.5/~{INT3} (io), 8 P1.6/INT4 (io), 9 P1.7/~{INT5} (io), 10 RST (in), 11 P3.0/RXD0 (io), 12 NC, 13 P3.1/TXD0 (io), 14 P3.2/~{INT0} (io), 15 P3.3/~{INT1} (io), 16 P3.4/T0 (io), 17 P3.5/T1 (io), 18 P3.6/~{WR} (io), 19 P3.7/~{RD} (io), 20 XTAL2 (out), 21 XTAL1 (in), 24 P2.0(A8) (io), 25 P2.1(A9) (io), 26 P2.2(A10) (io), 27 P2.3(A11) (io), 28 P2.4(A12) (io), 29 P2.5(A13) (io), 30 P2.6(A14) (io), 31 P2.7(A15) (io), 32 ~{PSEN} (out), 33 ALE (out), 34 NC, 35 ~{EA} (in), 36 P0.7(AD7) (io), 37 P0.6(AD6) (io), 38 P0.5(AD5) (io), 39 P0.4(AD4) (io), 40 P0.3(AD3) (io), 41 P0.2(AD2) (io), 42 P0.1(AD1) (io), 43 P0.0(AD0) (io)
part B pins: 1 GND (power), 22 GND (power), 23 GND (power), 44 VCC (power)

## DS83C520-QNL
designator U?
8-bit EPROM/ROM High-Speed Microcontroller, 33 MHz Max. Clock Speed, 44-pin PLCC, -40° to + 85° C; DatasheetVersion: 1/05/2009; PackageVersion: revE, 2009; PackageReference: Q44-9; PackageDescription: 44-Pin Plastic Leaded Chip Carrier 1.27 mm Pitch, PLCC; Code_JEDEC: MO-047-AC; Code_IPC: PLCC-44; ComponentLink1Description: Manufacturer URL; ComponentLink1URL: www.maxim-ic.com; ComponentLink2Description: Datasheet; ComponentLink2URL: http://datasheets.maxim-ic.com/en/ds/DS83C520-DS87C520.pdf
footprint Q44-9_N (Leaded Chip Carrier, 44-Leads, Body 16.6x16.6mm, Pitch 1.27mm, IPC Medium Density)
footprint Q44-9_L (Leaded Chip Carrier, 44-Leads, Body 16.6x16.6mm, Pitch 1.27mm, IPC High Density)
footprint Q44-9_M (Leaded Chip Carrier, 44-Leads, Body 16.6x16.6mm, Pitch 1.27mm, IPC Low Density)
part A pins: 2 P1.0/T2 (io), 3 P1.1/T2EX (io), 4 P1.2/RXD1 (io), 5 P1.3/TXD1 (io), 6 P1.4/INT2 (io), 7 P1.5/~{INT3} (io), 8 P1.6/INT4 (io), 9 P1.7/~{INT5} (io), 10 RST (in), 11 P3.0/RXD0 (io), 12 NC, 13 P3.1/TXD0 (io), 14 P3.2/~{INT0} (io), 15 P3.3/~{INT1} (io), 16 P3.4/T0 (io), 17 P3.5/T1 (io), 18 P3.6/~{WR} (io), 19 P3.7/~{RD} (io), 20 XTAL2 (out), 21 XTAL1 (in), 24 P2.0(A8) (io), 25 P2.1(A9) (io), 26 P2.2(A10) (io), 27 P2.3(A11) (io), 28 P2.4(A12) (io), 29 P2.5(A13) (io), 30 P2.6(A14) (io), 31 P2.7(A15) (io), 32 ~{PSEN} (out), 33 ALE (out), 34 NC, 35 ~{EA} (in), 36 P0.7(AD7) (io), 37 P0.6(AD6) (io), 38 P0.5(AD5) (io), 39 P0.4(AD4) (io), 40 P0.3(AD3) (io), 41 P0.2(AD2) (io), 42 P0.1(AD1) (io), 43 P0.0(AD0) (io)
part B pins: 1 GND (power), 22 GND (power), 23 GND (power), 44 VCC (power)

## DS83C520-QNL+
designator U?
8-bit EPROM/ROM High-Speed Microcontroller, 33 MHz Max. Clock Speed, 44-pin PLCC, -40° to + 85° C, Pb-Free; DatasheetVersion: 1/05/2009; PackageVersion: revE, 2009; PackageReference: Q44+9; PackageDescription: 44-Pin Plastic Leaded Chip Carrier 1.27 mm Pitch, PLCC, Pb-Free; Code_JEDEC: MO-047-AC; Code_IPC: PLCC-44; ComponentLink1Description: Manufacturer URL; ComponentLink1URL: www.maxim-ic.com; ComponentLink2Description: Datasheet; ComponentLink2URL: http://datasheets.maxim-ic.com/en/ds/DS83C520-DS87C520.pdf
footprint Q44+9_N (Leaded Chip Carrier, 44-Leads, Body 16.6x16.6mm, Pitch 1.27mm, IPC Medium Density)
footprint Q44+9_L (Leaded Chip Carrier, 44-Leads, Body 16.6x16.6mm, Pitch 1.27mm, IPC High Density)
footprint Q44+9_M (Leaded Chip Carrier, 44-Leads, Body 16.6x16.6mm, Pitch 1.27mm, IPC Low Density)
part A pins: 2 P1.0/T2 (io), 3 P1.1/T2EX (io), 4 P1.2/RXD1 (io), 5 P1.3/TXD1 (io), 6 P1.4/INT2 (io), 7 P1.5/~{INT3} (io), 8 P1.6/INT4 (io), 9 P1.7/~{INT5} (io), 10 RST (in), 11 P3.0/RXD0 (io), 12 NC, 13 P3.1/TXD0 (io), 14 P3.2/~{INT0} (io), 15 P3.3/~{INT1} (io), 16 P3.4/T0 (io), 17 P3.5/T1 (io), 18 P3.6/~{WR} (io), 19 P3.7/~{RD} (io), 20 XTAL2 (out), 21 XTAL1 (in), 24 P2.0(A8) (io), 25 P2.1(A9) (io), 26 P2.2(A10) (io), 27 P2.3(A11) (io), 28 P2.4(A12) (io), 29 P2.5(A13) (io), 30 P2.6(A14) (io), 31 P2.7(A15) (io), 32 ~{PSEN} (out), 33 ALE (out), 34 NC, 35 ~{EA} (in), 36 P0.7(AD7) (io), 37 P0.6(AD6) (io), 38 P0.5(AD5) (io), 39 P0.4(AD4) (io), 40 P0.3(AD3) (io), 41 P0.2(AD2) (io), 42 P0.1(AD1) (io), 43 P0.0(AD0) (io)
part B pins: 1 GND (power), 22 GND (power), 23 GND (power), 44 VCC (power)

## DS83C530-ECL
designator U?
8-bit EPROM/ROM Microcontroller with Real-Time Clock, 33 MHz Max. Clock Speed, 52-pin TQFP, 0° to + 70° C; DatasheetVersion: 1/05/2009; PackageVersion: revB, 2009; PackageReference: C52-2; PackageDescription: 52-Pin Thin Quad Flat Pack, 10x10x1.0mm Body, 1.0/0.1mm Form, TQFP; Code_JEDEC: MS-026-ACC; ComponentLink1Description: Manufacturer URL; ComponentLink1URL: www.maxim-ic.com; ComponentLink2Description: Datasheet; ComponentLink2URL: http://datasheets.maxim-ic.com/en/ds/DS83C530-DS87C530.pdf
footprint C52-2_N (Thin QFP, 52-Leads, Body 10 x 10mm, Pitch 0.65mm, IPC Medium Density)
footprint C52-2_L (Thin QFP, 52-Leads, Body 10 x 10mm, Pitch 0.65mm, IPC High Density)
footprint C52-2_M (Thin QFP, 52-Leads, Body 10 x 10mm, Pitch 0.65mm, IPC Low Density)
part A pins: 1 P1.5/~{INT3} (io), 2 P1.6/INT4 (io), 3 P1.7/~{INT5} (io), 4 NC, 5 RST (in), 6 NC, 7 NC, 8 P3.0/RXD0 (io), 9 P3.1/TXD0 (io), 10 P3.2/~{INT0} (io), 11 P3.3/~{INT1} (io), 12 P3.4/T0 (io), 13 P3.5/T1 (io), 14 P3.6/~{WR} (io), 15 P3.7/~{RD} (io), 16 XTAL2 (out), 17 XTAL1 (in), 20 RTCX2, 21 RTCX1, 23 P2.0(AD8) (io), 24 P2.1(AD9) (io), 25 P2.2(AD10) (io), 26 P2.3(AD11) (io), 27 P2.4(AD12) (io), 28 P2.5(AD13) (io), 29 P2.6(AD14) (io), 30 P2.7(AD15) (io), 31 ~{PSEN} (out), 32 ALE (out), 33 NC, 34 NC, 35 ~{EA} (in), 36 P0.7(AD7) (io), 37 P0.6(AD6) (io), 38 P0.5(AD5) (io), 39 P0.4(AD4) (io), 40 P0.3(AD3) (io), 41 P0.2(AD2) (io), 42 P0.1(AD1) (io), 43 P0.0(AD0) (io), 44 VBAT, 47 NC, 48 P1.0/T2 (io), 49 P1.1/T2EX (io), 50 P1.2/RXD1 (io), 51 P1.3/TXD1 (io), 52 P1.4/INT2 (io)
part B pins: 18 GND (power), 19 GND2 (power), 22 VCC2 (power), 45 VCC (power), 46 GND (power)

## DS83C530-ECL+
designator U?
8-bit EPROM/ROM Microcontroller with Real-Time Clock, 33 MHz Max. Clock Speed, 52-pin TQFP, 0° to + 70° C, Pb-Free; DatasheetVersion: 1/05/2009; PackageVersion: revB, 2009; PackageReference: C52+2; PackageDescription: 52-Pin Thin Quad Flat Pack, 10x10x1.0mm Body, 1.0/0.1mm Form, TQFP, Pb-Free; Code_JEDEC: MS-026-ACC; ComponentLink1Description: Manufacturer URL; ComponentLink1URL: www.maxim-ic.com; ComponentLink2Description: Datasheet; ComponentLink2URL: http://datasheets.maxim-ic.com/en/ds/DS83C530-DS87C530.pdf
footprint C52+2_N (Thin QFP, 52-Leads, Body 10 x 10mm, Pitch 0.65mm, IPC Medium Density)
footprint C52+2_L (Thin QFP, 52-Leads, Body 10 x 10mm, Pitch 0.65mm, IPC High Density)
footprint C52+2_M (Thin QFP, 52-Leads, Body 10 x 10mm, Pitch 0.65mm, IPC Low Density)
part A pins: 1 P1.5/~{INT3} (io), 2 P1.6/INT4 (io), 3 P1.7/~{INT5} (io), 4 NC, 5 RST (in), 6 NC, 7 NC, 8 P3.0/RXD0 (io), 9 P3.1/TXD0 (io), 10 P3.2/~{INT0} (io), 11 P3.3/~{INT1} (io), 12 P3.4/T0 (io), 13 P3.5/T1 (io), 14 P3.6/~{WR} (io), 15 P3.7/~{RD} (io), 16 XTAL2 (out), 17 XTAL1 (in), 20 RTCX2, 21 RTCX1, 23 P2.0(AD8) (io), 24 P2.1(AD9) (io), 25 P2.2(AD10) (io), 26 P2.3(AD11) (io), 27 P2.4(AD12) (io), 28 P2.5(AD13) (io), 29 P2.6(AD14) (io), 30 P2.7(AD15) (io), 31 ~{PSEN} (out), 32 ALE (out), 33 NC, 34 NC, 35 ~{EA} (in), 36 P0.7(AD7) (io), 37 P0.6(AD6) (io), 38 P0.5(AD5) (io), 39 P0.4(AD4) (io), 40 P0.3(AD3) (io), 41 P0.2(AD2) (io), 42 P0.1(AD1) (io), 43 P0.0(AD0) (io), 44 VBAT, 47 NC, 48 P1.0/T2 (io), 49 P1.1/T2EX (io), 50 P1.2/RXD1 (io), 51 P1.3/TXD1 (io), 52 P1.4/INT2 (io)
part B pins: 18 GND (power), 19 GND2 (power), 22 VCC2 (power), 45 VCC (power), 46 GND (power)

## DS83C530-ENL
designator U?
8-bit EPROM/ROM Microcontroller with Real-Time Clock, 33 MHz Max. Clock Speed, 52-pin TQFP, -40° to + 85° C; DatasheetVersion: 1/05/2009; PackageVersion: revB, 2009; PackageReference: C52-2; PackageDescription: 52-Pin Thin Quad Flat Pack, 10x10x1.0mm Body, 1.0/0.1mm Form, TQFP; Code_JEDEC: MS-026-ACC; ComponentLink1Description: Manufacturer URL; ComponentLink1URL: www.maxim-ic.com; ComponentLink2Description: Datasheet; ComponentLink2URL: http://datasheets.maxim-ic.com/en/ds/DS83C530-DS87C530.pdf
footprint C52-2_N (Thin QFP, 52-Leads, Body 10 x 10mm, Pitch 0.65mm, IPC Medium Density)
footprint C52-2_L (Thin QFP, 52-Leads, Body 10 x 10mm, Pitch 0.65mm, IPC High Density)
footprint C52-2_M (Thin QFP, 52-Leads, Body 10 x 10mm, Pitch 0.65mm, IPC Low Density)
part A pins: 1 P1.5/~{INT3} (io), 2 P1.6/INT4 (io), 3 P1.7/~{INT5} (io), 4 NC, 5 RST (in), 6 NC, 7 NC, 8 P3.0/RXD0 (io), 9 P3.1/TXD0 (io), 10 P3.2/~{INT0} (io), 11 P3.3/~{INT1} (io), 12 P3.4/T0 (io), 13 P3.5/T1 (io), 14 P3.6/~{WR} (io), 15 P3.7/~{RD} (io), 16 XTAL2 (out), 17 XTAL1 (in), 20 RTCX2, 21 RTCX1, 23 P2.0(AD8) (io), 24 P2.1(AD9) (io), 25 P2.2(AD10) (io), 26 P2.3(AD11) (io), 27 P2.4(AD12) (io), 28 P2.5(AD13) (io), 29 P2.6(AD14) (io), 30 P2.7(AD15) (io), 31 ~{PSEN} (out), 32 ALE (out), 33 NC, 34 NC, 35 ~{EA} (in), 36 P0.7(AD7) (io), 37 P0.6(AD6) (io), 38 P0.5(AD5) (io), 39 P0.4(AD4) (io), 40 P0.3(AD3) (io), 41 P0.2(AD2) (io), 42 P0.1(AD1) (io), 43 P0.0(AD0) (io), 44 VBAT, 47 NC, 48 P1.0/T2 (io), 49 P1.1/T2EX (io), 50 P1.2/RXD1 (io), 51 P1.3/TXD1 (io), 52 P1.4/INT2 (io)
part B pins: 18 GND (power), 19 GND2 (power), 22 VCC2 (power), 45 VCC (power), 46 GND (power)

## DS83C530-ENL+
designator U?
8-bit EPROM/ROM Microcontroller with Real-Time Clock, 33 MHz Max. Clock Speed, 52-pin TQFP, -40° to + 85° C, Pb-Free; DatasheetVersion: 1/05/2009; PackageVersion: revB, 2009; PackageReference: C52+2; PackageDescription: 52-Pin Thin Quad Flat Pack, 10x10x1.0mm Body, 1.0/0.1mm Form, TQFP, Pb-Free; Code_JEDEC: MS-026-ACC; ComponentLink1Description: Manufacturer URL; ComponentLink1URL: www.maxim-ic.com; ComponentLink2Description: Datasheet; ComponentLink2URL: http://datasheets.maxim-ic.com/en/ds/DS83C530-DS87C530.pdf
footprint C52+2_N (Thin QFP, 52-Leads, Body 10 x 10mm, Pitch 0.65mm, IPC Medium Density)
footprint C52+2_L (Thin QFP, 52-Leads, Body 10 x 10mm, Pitch 0.65mm, IPC High Density)
footprint C52+2_M (Thin QFP, 52-Leads, Body 10 x 10mm, Pitch 0.65mm, IPC Low Density)
part A pins: 1 P1.5/~{INT3} (io), 2 P1.6/INT4 (io), 3 P1.7/~{INT5} (io), 4 NC, 5 RST (in), 6 NC, 7 NC, 8 P3.0/RXD0 (io), 9 P3.1/TXD0 (io), 10 P3.2/~{INT0} (io), 11 P3.3/~{INT1} (io), 12 P3.4/T0 (io), 13 P3.5/T1 (io), 14 P3.6/~{WR} (io), 15 P3.7/~{RD} (io), 16 XTAL2 (out), 17 XTAL1 (in), 20 RTCX2, 21 RTCX1, 23 P2.0(AD8) (io), 24 P2.1(AD9) (io), 25 P2.2(AD10) (io), 26 P2.3(AD11) (io), 27 P2.4(AD12) (io), 28 P2.5(AD13) (io), 29 P2.6(AD14) (io), 30 P2.7(AD15) (io), 31 ~{PSEN} (out), 32 ALE (out), 33 NC, 34 NC, 35 ~{EA} (in), 36 P0.7(AD7) (io), 37 P0.6(AD6) (io), 38 P0.5(AD5) (io), 39 P0.4(AD4) (io), 40 P0.3(AD3) (io), 41 P0.2(AD2) (io), 42 P0.1(AD1) (io), 43 P0.0(AD0) (io), 44 VBAT, 47 NC, 48 P1.0/T2 (io), 49 P1.1/T2EX (io), 50 P1.2/RXD1 (io), 51 P1.3/TXD1 (io), 52 P1.4/INT2 (io)
part B pins: 18 GND (power), 19 GND2 (power), 22 VCC2 (power), 45 VCC (power), 46 GND (power)

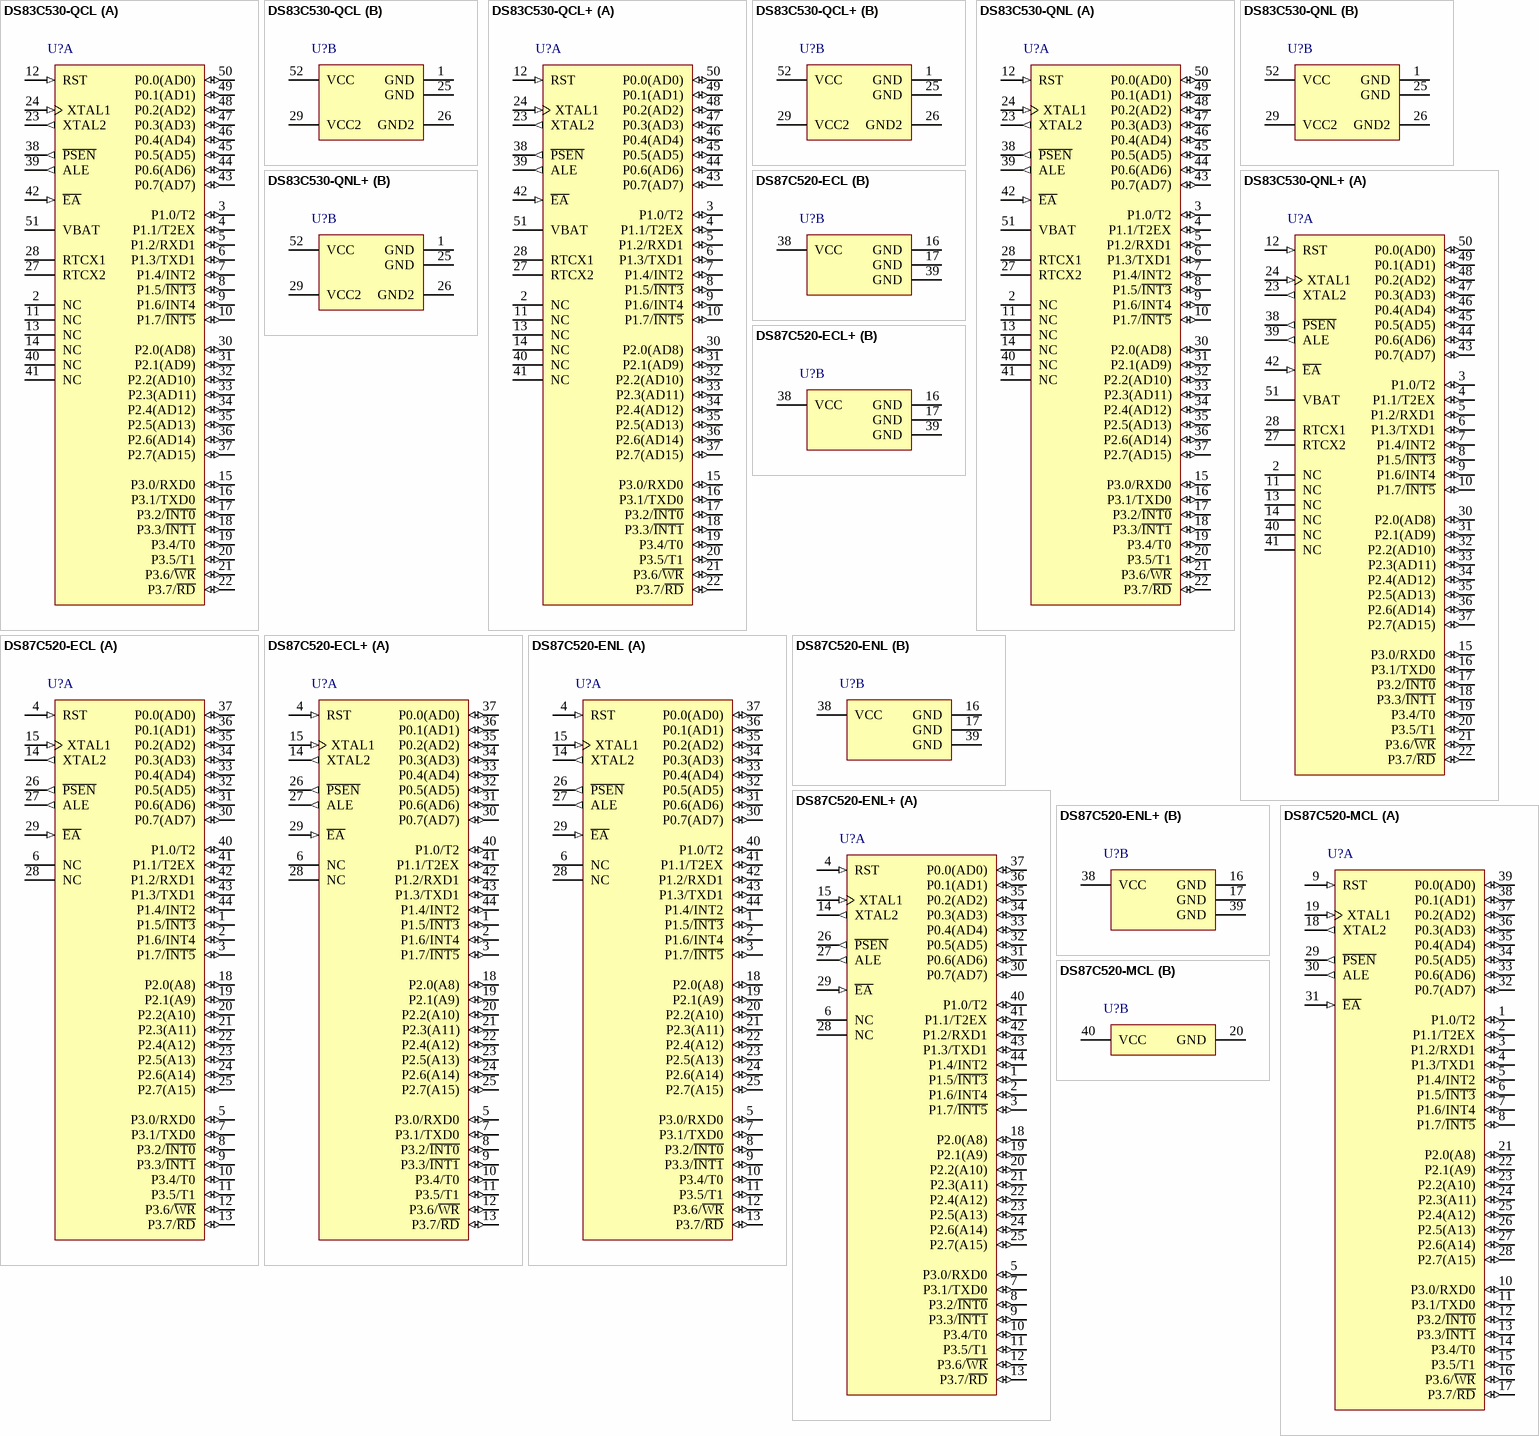
[diagram p11: symbols DS83C530-QCL to DS87C520-MCL]

## DS83C530-QCL
designator U?
8-bit EPROM/ROM Microcontroller with Real-Time Clock, 33 MHz Max. Clock Speed, 52-pin PLCC, 0° to + 70° C; DatasheetVersion: 1/05/2009; PackageVersion: revE, 2009; PackageReference: Q52-1; PackageDescription: 52-Pin Plastic Leaded Chip Carrier 1.27 mm Pitch, PLCC; Code_JEDEC: MO-047-AD; ComponentLink1Description: Manufacturer URL; ComponentLink1URL: www.maxim-ic.com; ComponentLink2Description: Datasheet; ComponentLink2URL: http://datasheets.maxim-ic.com/en/ds/DS83C530-DS87C530.pdf
footprint Q52-1_N (Leaded Chip Carrier, 52-Leads, Body 19.1x19.1mm, Pitch 1.27mm, IPC Medium Density)
footprint Q52-1_L (Leaded Chip Carrier, 52-Leads, Body 19.1x19.1mm, Pitch 1.27mm, IPC High Density)
footprint Q52-1_M (Leaded Chip Carrier, 52-Leads, Body 19.1x19.1mm, Pitch 1.27mm, IPC Low Density)
part A pins: 2 NC, 3 P1.0/T2 (io), 4 P1.1/T2EX (io), 5 P1.2/RXD1 (io), 6 P1.3/TXD1 (io), 7 P1.4/INT2 (io), 8 P1.5/~{INT3} (io), 9 P1.6/INT4 (io), 10 P1.7/~{INT5} (io), 11 NC, 12 RST (in), 13 NC, 14 NC, 15 P3.0/RXD0 (io), 16 P3.1/TXD0 (io), 17 P3.2/~{INT0} (io), 18 P3.3/~{INT1} (io), 19 P3.4/T0 (io), 20 P3.5/T1 (io), 21 P3.6/~{WR} (io), 22 P3.7/~{RD} (io), 23 XTAL2 (out), 24 XTAL1 (in), 27 RTCX2, 28 RTCX1, 30 P2.0(AD8) (io), 31 P2.1(AD9) (io), 32 P2.2(AD10) (io), 33 P2.3(AD11) (io), 34 P2.4(AD12) (io), 35 P2.5(AD13) (io), 36 P2.6(AD14) (io), 37 P2.7(AD15) (io), 38 ~{PSEN} (out), 39 ALE (out), 40 NC, 41 NC, 42 ~{EA} (in), 43 P0.7(AD7) (io), 44 P0.6(AD6) (io), 45 P0.5(AD5) (io), 46 P0.4(AD4) (io), 47 P0.3(AD3) (io), 48 P0.2(AD2) (io), 49 P0.1(AD1) (io), 50 P0.0(AD0) (io), 51 VBAT
part B pins: 1 GND (power), 25 GND (power), 26 GND2 (power), 29 VCC2 (power), 52 VCC (power)

## DS83C530-QCL+
designator U?
8-bit EPROM/ROM Microcontroller with Real-Time Clock, 33 MHz Max. Clock Speed, 52-pin PLCC, 0° to + 70° C, Pb-Free; DatasheetVersion: 1/05/2009; PackageVersion: revE, 2009; PackageReference: Q52+1; PackageDescription: 52-Pin Plastic Leaded Chip Carrier 1.27 mm Pitch, PLCC, Pb-Free; Code_JEDEC: MO-047-AD; ComponentLink1Description: Manufacturer URL; ComponentLink1URL: www.maxim-ic.com; ComponentLink2Description: Datasheet; ComponentLink2URL: http://datasheets.maxim-ic.com/en/ds/DS83C530-DS87C530.pdf
footprint Q52+1_N (Leaded Chip Carrier, 52-Leads, Body 19.1x19.1mm, Pitch 1.27mm, IPC Medium Density)
footprint Q52+1_L (Leaded Chip Carrier, 52-Leads, Body 19.1x19.1mm, Pitch 1.27mm, IPC High Density)
footprint Q52+1_M (Leaded Chip Carrier, 52-Leads, Body 19.1x19.1mm, Pitch 1.27mm, IPC Low Density)
part A pins: 2 NC, 3 P1.0/T2 (io), 4 P1.1/T2EX (io), 5 P1.2/RXD1 (io), 6 P1.3/TXD1 (io), 7 P1.4/INT2 (io), 8 P1.5/~{INT3} (io), 9 P1.6/INT4 (io), 10 P1.7/~{INT5} (io), 11 NC, 12 RST (in), 13 NC, 14 NC, 15 P3.0/RXD0 (io), 16 P3.1/TXD0 (io), 17 P3.2/~{INT0} (io), 18 P3.3/~{INT1} (io), 19 P3.4/T0 (io), 20 P3.5/T1 (io), 21 P3.6/~{WR} (io), 22 P3.7/~{RD} (io), 23 XTAL2 (out), 24 XTAL1 (in), 27 RTCX2, 28 RTCX1, 30 P2.0(AD8) (io), 31 P2.1(AD9) (io), 32 P2.2(AD10) (io), 33 P2.3(AD11) (io), 34 P2.4(AD12) (io), 35 P2.5(AD13) (io), 36 P2.6(AD14) (io), 37 P2.7(AD15) (io), 38 ~{PSEN} (out), 39 ALE (out), 40 NC, 41 NC, 42 ~{EA} (in), 43 P0.7(AD7) (io), 44 P0.6(AD6) (io), 45 P0.5(AD5) (io), 46 P0.4(AD4) (io), 47 P0.3(AD3) (io), 48 P0.2(AD2) (io), 49 P0.1(AD1) (io), 50 P0.0(AD0) (io), 51 VBAT
part B pins: 1 GND (power), 25 GND (power), 26 GND2 (power), 29 VCC2 (power), 52 VCC (power)

## DS83C530-QNL
designator U?
8-bit EPROM/ROM Microcontroller with Real-Time Clock, 33 MHz Max. Clock Speed, 52-pin PLCC, -40° to + 85° C; DatasheetVersion: 1/05/2009; PackageVersion: revE, 2009; PackageReference: Q52-1; PackageDescription: 52-Pin Plastic Leaded Chip Carrier 1.27 mm Pitch, PLCC; Code_JEDEC: MO-047-AD; ComponentLink1Description: Manufacturer URL; ComponentLink1URL: www.maxim-ic.com; ComponentLink2Description: Datasheet; ComponentLink2URL: http://datasheets.maxim-ic.com/en/ds/DS83C530-DS87C530.pdf
footprint Q52-1_N (Leaded Chip Carrier, 52-Leads, Body 19.1x19.1mm, Pitch 1.27mm, IPC Medium Density)
footprint Q52-1_L (Leaded Chip Carrier, 52-Leads, Body 19.1x19.1mm, Pitch 1.27mm, IPC High Density)
footprint Q52-1_M (Leaded Chip Carrier, 52-Leads, Body 19.1x19.1mm, Pitch 1.27mm, IPC Low Density)
part A pins: 2 NC, 3 P1.0/T2 (io), 4 P1.1/T2EX (io), 5 P1.2/RXD1 (io), 6 P1.3/TXD1 (io), 7 P1.4/INT2 (io), 8 P1.5/~{INT3} (io), 9 P1.6/INT4 (io), 10 P1.7/~{INT5} (io), 11 NC, 12 RST (in), 13 NC, 14 NC, 15 P3.0/RXD0 (io), 16 P3.1/TXD0 (io), 17 P3.2/~{INT0} (io), 18 P3.3/~{INT1} (io), 19 P3.4/T0 (io), 20 P3.5/T1 (io), 21 P3.6/~{WR} (io), 22 P3.7/~{RD} (io), 23 XTAL2 (out), 24 XTAL1 (in), 27 RTCX2, 28 RTCX1, 30 P2.0(AD8) (io), 31 P2.1(AD9) (io), 32 P2.2(AD10) (io), 33 P2.3(AD11) (io), 34 P2.4(AD12) (io), 35 P2.5(AD13) (io), 36 P2.6(AD14) (io), 37 P2.7(AD15) (io), 38 ~{PSEN} (out), 39 ALE (out), 40 NC, 41 NC, 42 ~{EA} (in), 43 P0.7(AD7) (io), 44 P0.6(AD6) (io), 45 P0.5(AD5) (io), 46 P0.4(AD4) (io), 47 P0.3(AD3) (io), 48 P0.2(AD2) (io), 49 P0.1(AD1) (io), 50 P0.0(AD0) (io), 51 VBAT
part B pins: 1 GND (power), 25 GND (power), 26 GND2 (power), 29 VCC2 (power), 52 VCC (power)

## DS83C530-QNL+
designator U?
8-bit EPROM/ROM Microcontroller with Real-Time Clock, 33 MHz Max. Clock Speed, 52-pin PLCC, -40° to + 85° C, Pb-Free; DatasheetVersion: 1/05/2009; PackageVersion: revE, 2009; PackageReference: Q52+1; PackageDescription: 52-Pin Plastic Leaded Chip Carrier 1.27 mm Pitch, PLCC, Pb-Free; Code_JEDEC: MO-047-AD; ComponentLink1Description: Manufacturer URL; ComponentLink1URL: www.maxim-ic.com; ComponentLink2Description: Datasheet; ComponentLink2URL: http://datasheets.maxim-ic.com/en/ds/DS83C530-DS87C530.pdf
footprint Q52+1_N (Leaded Chip Carrier, 52-Leads, Body 19.1x19.1mm, Pitch 1.27mm, IPC Medium Density)
footprint Q52+1_L (Leaded Chip Carrier, 52-Leads, Body 19.1x19.1mm, Pitch 1.27mm, IPC High Density)
footprint Q52+1_M (Leaded Chip Carrier, 52-Leads, Body 19.1x19.1mm, Pitch 1.27mm, IPC Low Density)
part A pins: 2 NC, 3 P1.0/T2 (io), 4 P1.1/T2EX (io), 5 P1.2/RXD1 (io), 6 P1.3/TXD1 (io), 7 P1.4/INT2 (io), 8 P1.5/~{INT3} (io), 9 P1.6/INT4 (io), 10 P1.7/~{INT5} (io), 11 NC, 12 RST (in), 13 NC, 14 NC, 15 P3.0/RXD0 (io), 16 P3.1/TXD0 (io), 17 P3.2/~{INT0} (io), 18 P3.3/~{INT1} (io), 19 P3.4/T0 (io), 20 P3.5/T1 (io), 21 P3.6/~{WR} (io), 22 P3.7/~{RD} (io), 23 XTAL2 (out), 24 XTAL1 (in), 27 RTCX2, 28 RTCX1, 30 P2.0(AD8) (io), 31 P2.1(AD9) (io), 32 P2.2(AD10) (io), 33 P2.3(AD11) (io), 34 P2.4(AD12) (io), 35 P2.5(AD13) (io), 36 P2.6(AD14) (io), 37 P2.7(AD15) (io), 38 ~{PSEN} (out), 39 ALE (out), 40 NC, 41 NC, 42 ~{EA} (in), 43 P0.7(AD7) (io), 44 P0.6(AD6) (io), 45 P0.5(AD5) (io), 46 P0.4(AD4) (io), 47 P0.3(AD3) (io), 48 P0.2(AD2) (io), 49 P0.1(AD1) (io), 50 P0.0(AD0) (io), 51 VBAT
part B pins: 1 GND (power), 25 GND (power), 26 GND2 (power), 29 VCC2 (power), 52 VCC (power)

## DS87C520-ECL
designator U?
8-bit EPROM/ROM High-Speed Microcontroller, 33 MHz Max. Clock Speed, 44-pin TQFP, 0° to + 70° C; DatasheetVersion: 1/05/2009; PackageVersion: revB, 2010; PackageReference: C44-3; PackageDescription: 44-Pin Thin Quad Flatpack, 10 x 10 x 1.0 mm Body, 0.8 mm Pitch, TQFP; ComponentLink1Description: Manufacturer URL; ComponentLink1URL: www.maxim-ic.com; ComponentLink2Description: Datasheet; ComponentLink2URL: http://datasheets.maxim-ic.com/en/ds/DS83C520-DS87C520.pdf
footprint C44-3_N (Thin QFP, 44-Leads, Body 10x10mm, Pitch 0.8mm, IPC Medium Density)
footprint C44-3_L (Thin QFP, 44-Leads, Body 10x10mm, Pitch 0.8mm, IPC High Density)
footprint C44-3_M (Thin QFP, 44-Leads, Body 10x10mm, Pitch 0.8mm, IPC Low Density)
part A pins: 1 P1.5/~{INT3} (io), 2 P1.6/INT4 (io), 3 P1.7/~{INT5} (io), 4 RST (in), 5 P3.0/RXD0 (io), 6 NC, 7 P3.1/TXD0 (io), 8 P3.2/~{INT0} (io), 9 P3.3/~{INT1} (io), 10 P3.4/T0 (io), 11 P3.5/T1 (io), 12 P3.6/~{WR} (io), 13 P3.7/~{RD} (io), 14 XTAL2 (out), 15 XTAL1 (in), 18 P2.0(A8) (io), 19 P2.1(A9) (io), 20 P2.2(A10) (io), 21 P2.3(A11) (io), 22 P2.4(A12) (io), 23 P2.5(A13) (io), 24 P2.6(A14) (io), 25 P2.7(A15) (io), 26 ~{PSEN} (out), 27 ALE (out), 28 NC, 29 ~{EA} (in), 30 P0.7(AD7) (io), 31 P0.6(AD6) (io), 32 P0.5(AD5) (io), 33 P0.4(AD4) (io), 34 P0.3(AD3) (io), 35 P0.2(AD2) (io), 36 P0.1(AD1) (io), 37 P0.0(AD0) (io), 40 P1.0/T2 (io), 41 P1.1/T2EX (io), 42 P1.2/RXD1 (io), 43 P1.3/TXD1 (io), 44 P1.4/INT2 (io)
part B pins: 16 GND (power), 17 GND (power), 38 VCC (power), 39 GND (power)

## DS87C520-ECL+
designator U?
8-bit EPROM/ROM High-Speed Microcontroller, 33 MHz Max. Clock Speed, 44-pin TQFP, 0° to + 70° C, Pb-Free; DatasheetVersion: 1/05/2009; PackageVersion: revB, 2010; PackageReference: C44+3; PackageDescription: 44-Pin Thin Quad Flatpack, 10 x 10 x 1.0 mm Body, 0.8 mm Pitch, TQFP, Pb-Free; ComponentLink1Description: Manufacturer URL; ComponentLink1URL: www.maxim-ic.com; ComponentLink2Description: Datasheet; ComponentLink2URL: http://datasheets.maxim-ic.com/en/ds/DS83C520-DS87C520.pdf
footprint C44+3_N (Thin QFP, 44-Leads, Body 10x10mm, Pitch 0.8mm, IPC Medium Density)
footprint C44+3_L (Thin QFP, 44-Leads, Body 10x10mm, Pitch 0.8mm, IPC High Density)
footprint C44+3_M (Thin QFP, 44-Leads, Body 10x10mm, Pitch 0.8mm, IPC Low Density)
part A pins: 1 P1.5/~{INT3} (io), 2 P1.6/INT4 (io), 3 P1.7/~{INT5} (io), 4 RST (in), 5 P3.0/RXD0 (io), 6 NC, 7 P3.1/TXD0 (io), 8 P3.2/~{INT0} (io), 9 P3.3/~{INT1} (io), 10 P3.4/T0 (io), 11 P3.5/T1 (io), 12 P3.6/~{WR} (io), 13 P3.7/~{RD} (io), 14 XTAL2 (out), 15 XTAL1 (in), 18 P2.0(A8) (io), 19 P2.1(A9) (io), 20 P2.2(A10) (io), 21 P2.3(A11) (io), 22 P2.4(A12) (io), 23 P2.5(A13) (io), 24 P2.6(A14) (io), 25 P2.7(A15) (io), 26 ~{PSEN} (out), 27 ALE (out), 28 NC, 29 ~{EA} (in), 30 P0.7(AD7) (io), 31 P0.6(AD6) (io), 32 P0.5(AD5) (io), 33 P0.4(AD4) (io), 34 P0.3(AD3) (io), 35 P0.2(AD2) (io), 36 P0.1(AD1) (io), 37 P0.0(AD0) (io), 40 P1.0/T2 (io), 41 P1.1/T2EX (io), 42 P1.2/RXD1 (io), 43 P1.3/TXD1 (io), 44 P1.4/INT2 (io)
part B pins: 16 GND (power), 17 GND (power), 38 VCC (power), 39 GND (power)

## DS87C520-ENL
designator U?
8-bit EPROM/ROM High-Speed Microcontroller, 33 MHz Max. Clock Speed, 44-pin TQFP, -40° to + 85° C; DatasheetVersion: 1/05/2009; PackageVersion: revB, 2010; PackageReference: C44-3; PackageDescription: 44-Pin Thin Quad Flatpack, 10 x 10 x 1.0 mm Body, 0.8 mm Pitch, TQFP; ComponentLink1Description: Manufacturer URL; ComponentLink1URL: www.maxim-ic.com; ComponentLink2Description: Datasheet; ComponentLink2URL: http://datasheets.maxim-ic.com/en/ds/DS83C520-DS87C520.pdf
footprint C44-3_N (Thin QFP, 44-Leads, Body 10x10mm, Pitch 0.8mm, IPC Medium Density)
footprint C44-3_L (Thin QFP, 44-Leads, Body 10x10mm, Pitch 0.8mm, IPC High Density)
footprint C44-3_M (Thin QFP, 44-Leads, Body 10x10mm, Pitch 0.8mm, IPC Low Density)
part A pins: 1 P1.5/~{INT3} (io), 2 P1.6/INT4 (io), 3 P1.7/~{INT5} (io), 4 RST (in), 5 P3.0/RXD0 (io), 6 NC, 7 P3.1/TXD0 (io), 8 P3.2/~{INT0} (io), 9 P3.3/~{INT1} (io), 10 P3.4/T0 (io), 11 P3.5/T1 (io), 12 P3.6/~{WR} (io), 13 P3.7/~{RD} (io), 14 XTAL2 (out), 15 XTAL1 (in), 18 P2.0(A8) (io), 19 P2.1(A9) (io), 20 P2.2(A10) (io), 21 P2.3(A11) (io), 22 P2.4(A12) (io), 23 P2.5(A13) (io), 24 P2.6(A14) (io), 25 P2.7(A15) (io), 26 ~{PSEN} (out), 27 ALE (out), 28 NC, 29 ~{EA} (in), 30 P0.7(AD7) (io), 31 P0.6(AD6) (io), 32 P0.5(AD5) (io), 33 P0.4(AD4) (io), 34 P0.3(AD3) (io), 35 P0.2(AD2) (io), 36 P0.1(AD1) (io), 37 P0.0(AD0) (io), 40 P1.0/T2 (io), 41 P1.1/T2EX (io), 42 P1.2/RXD1 (io), 43 P1.3/TXD1 (io), 44 P1.4/INT2 (io)
part B pins: 16 GND (power), 17 GND (power), 38 VCC (power), 39 GND (power)

## DS87C520-ENL+
designator U?
8-bit EPROM/ROM High-Speed Microcontroller, 33 MHz Max. Clock Speed, 44-pin TQFP, -40° to + 85° C, Pb-Free; DatasheetVersion: 1/05/2009; PackageVersion: revB, 2010; PackageReference: C44+3; PackageDescription: 44-Pin Thin Quad Flatpack, 10 x 10 x 1.0 mm Body, 0.8 mm Pitch, TQFP, Pb-Free; ComponentLink1Description: Manufacturer URL; ComponentLink1URL: www.maxim-ic.com; ComponentLink2Description: Datasheet; ComponentLink2URL: http://datasheets.maxim-ic.com/en/ds/DS83C520-DS87C520.pdf
footprint C44+3_N (Thin QFP, 44-Leads, Body 10x10mm, Pitch 0.8mm, IPC Medium Density)
footprint C44+3_L (Thin QFP, 44-Leads, Body 10x10mm, Pitch 0.8mm, IPC High Density)
footprint C44+3_M (Thin QFP, 44-Leads, Body 10x10mm, Pitch 0.8mm, IPC Low Density)
part A pins: 1 P1.5/~{INT3} (io), 2 P1.6/INT4 (io), 3 P1.7/~{INT5} (io), 4 RST (in), 5 P3.0/RXD0 (io), 6 NC, 7 P3.1/TXD0 (io), 8 P3.2/~{INT0} (io), 9 P3.3/~{INT1} (io), 10 P3.4/T0 (io), 11 P3.5/T1 (io), 12 P3.6/~{WR} (io), 13 P3.7/~{RD} (io), 14 XTAL2 (out), 15 XTAL1 (in), 18 P2.0(A8) (io), 19 P2.1(A9) (io), 20 P2.2(A10) (io), 21 P2.3(A11) (io), 22 P2.4(A12) (io), 23 P2.5(A13) (io), 24 P2.6(A14) (io), 25 P2.7(A15) (io), 26 ~{PSEN} (out), 27 ALE (out), 28 NC, 29 ~{EA} (in), 30 P0.7(AD7) (io), 31 P0.6(AD6) (io), 32 P0.5(AD5) (io), 33 P0.4(AD4) (io), 34 P0.3(AD3) (io), 35 P0.2(AD2) (io), 36 P0.1(AD1) (io), 37 P0.0(AD0) (io), 40 P1.0/T2 (io), 41 P1.1/T2EX (io), 42 P1.2/RXD1 (io), 43 P1.3/TXD1 (io), 44 P1.4/INT2 (io)
part B pins: 16 GND (power), 17 GND (power), 38 VCC (power), 39 GND (power)

## DS87C520-MCL
designator U?
8-bit EPROM/ROM High-Speed Microcontroller, 33 MHz Max. Clock Speed, 40-pin Plastic DIP, 0° to + 70° C; DatasheetVersion: 1/05/2009; PackageVersion: revD, 2011; PackageReference: P40-4; PackageDescription: 40-Pin Plastic Dual-In-Line, 0.6in Wide, PDIP(W); Code_JEDEC: MS-011-AC; ComponentLink1Description: Manufacturer URL; ComponentLink1URL: www.maxim-ic.com; ComponentLink2Description: Datasheet; ComponentLink2URL: http://datasheets.maxim-ic.com/en/ds/DS83C520-DS87C520.pdf
footprint P40-4 (DIP, 40-Leads, Row Spacing 15.24mm, Pitch 2.54mm, Body 52.1x14mm)
part A pins: 1 P1.0/T2 (io), 2 P1.1/T2EX (io), 3 P1.2/RXD1 (io), 4 P1.3/TXD1 (io), 5 P1.4/INT2 (io), 6 P1.5/~{INT3} (io), 7 P1.6/INT4 (io), 8 P1.7/~{INT5} (io), 9 RST (in), 10 P3.0/RXD0 (io), 11 P3.1/TXD0 (io), 12 P3.2/~{INT0} (io), 13 P3.3/~{INT1} (io), 14 P3.4/T0 (io), 15 P3.5/T1 (io), 16 P3.6/~{WR} (io), 17 P3.7/~{RD} (io), 18 XTAL2 (out), 19 XTAL1 (in), 21 P2.0(A8) (io), 22 P2.1(A9) (io), 23 P2.2(A10) (io), 24 P2.3(A11) (io), 25 P2.4(A12) (io), 26 P2.5(A13) (io), 27 P2.6(A14) (io), 28 P2.7(A15) (io), 29 ~{PSEN} (out), 30 ALE (out), 31 ~{EA} (in), 32 P0.7(AD7) (io), 33 P0.6(AD6) (io), 34 P0.5(AD5) (io), 35 P0.4(AD4) (io), 36 P0.3(AD3) (io), 37 P0.2(AD2) (io), 38 P0.1(AD1) (io), 39 P0.0(AD0) (io)
part B pins: 20 GND (power), 40 VCC (power)

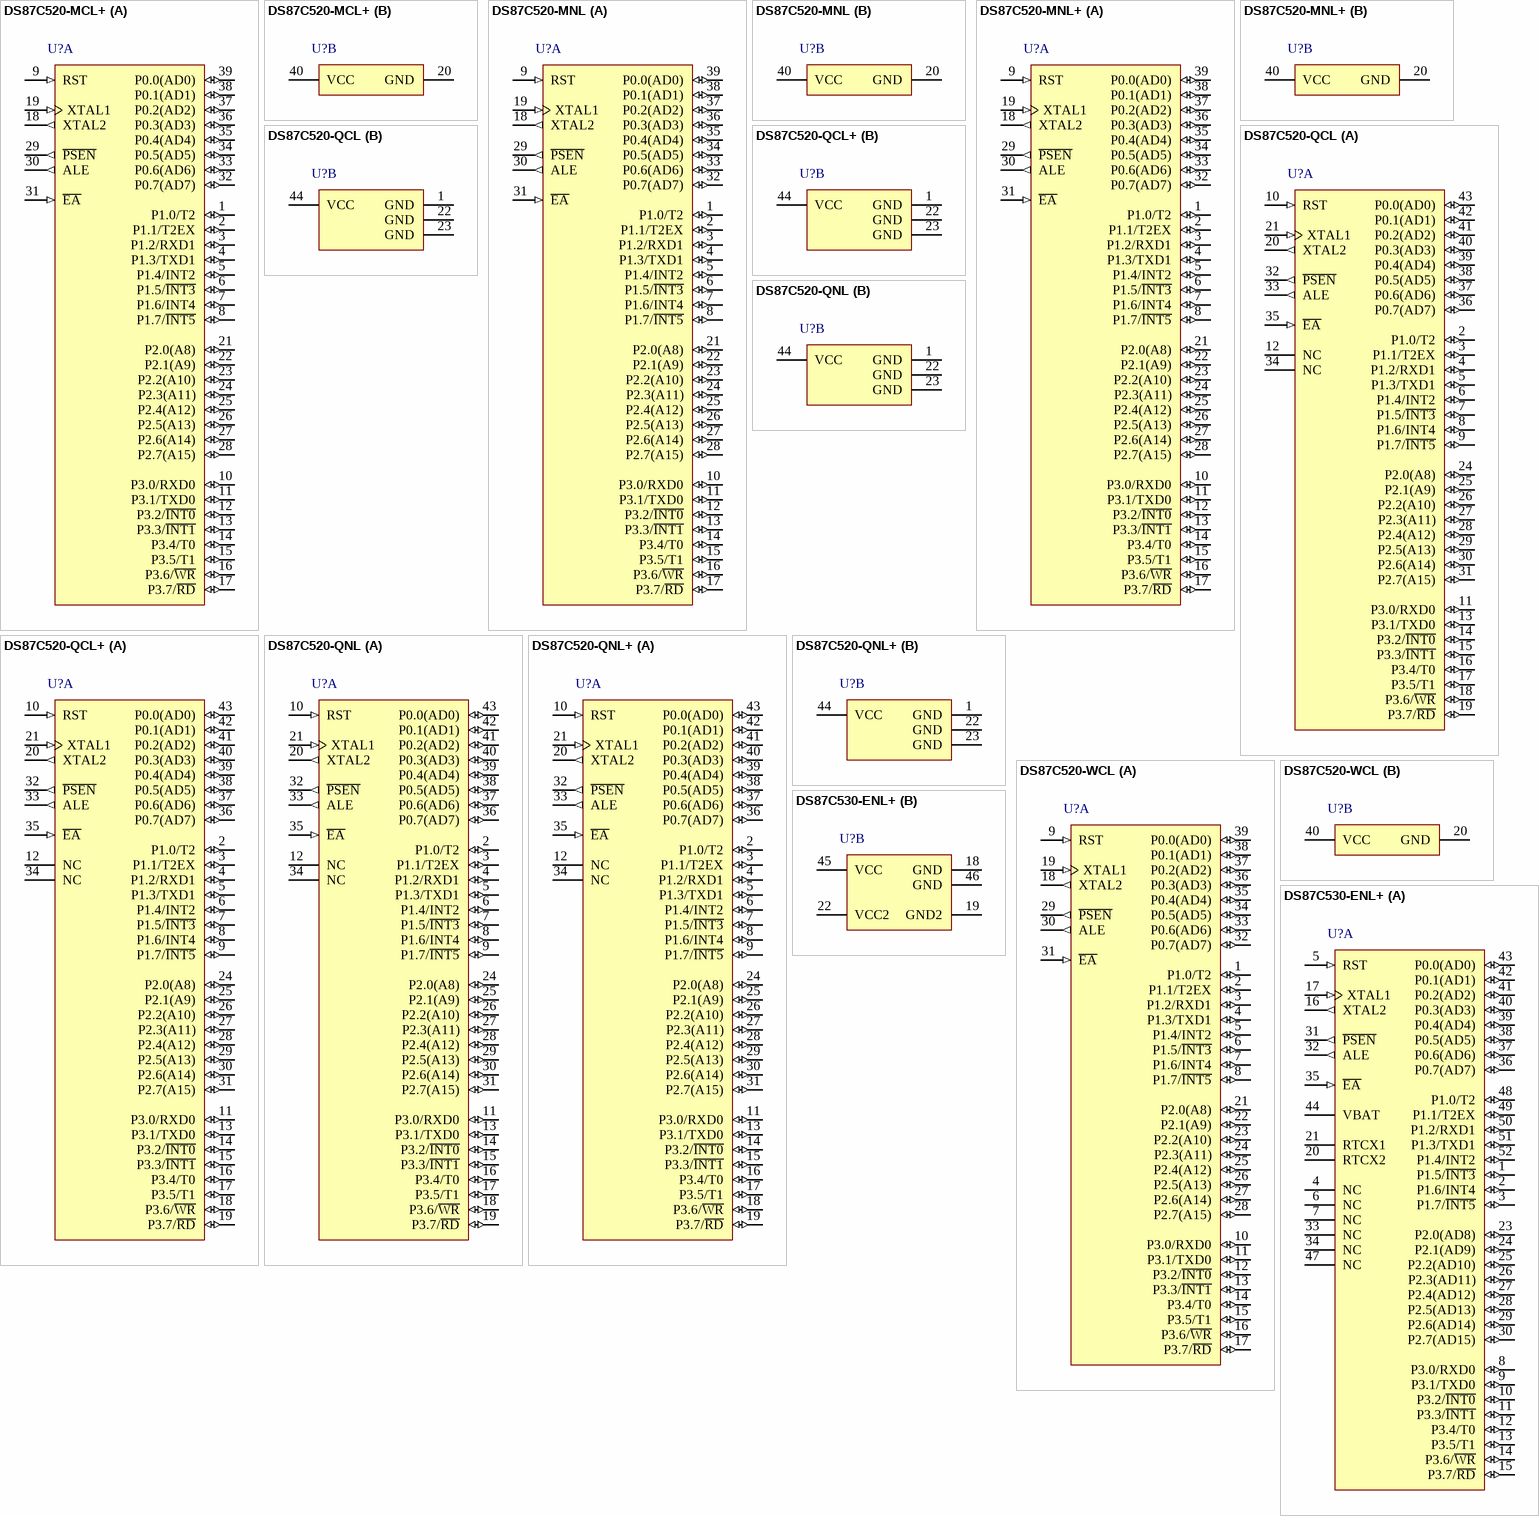
[diagram p12: symbols DS87C520-MCL+ to DS87C530-ENL+]

## DS87C520-MCL+
designator U?
8-bit EPROM/ROM High-Speed Microcontroller, 33 MHz Max. Clock Speed, 40-pin Plastic DIP, 0° to + 70° C, Pb-Free; DatasheetVersion: 1/05/2009; PackageVersion: revD, 2011; PackageReference: P40+4; PackageDescription: 40-Pin Plastic Dual-In-Line, 0.6in Wide, PDIP(W), Pb-Free; Code_JEDEC: MS-011-AC; ComponentLink1Description: Manufacturer URL; ComponentLink1URL: www.maxim-ic.com; ComponentLink2Description: Datasheet; ComponentLink2URL: http://datasheets.maxim-ic.com/en/ds/DS83C520-DS87C520.pdf
footprint P40+4 (DIP, 40-Leads, Row Spacing 15.24mm, Pitch 2.54mm, Body 52.1x14mm)
part A pins: 1 P1.0/T2 (io), 2 P1.1/T2EX (io), 3 P1.2/RXD1 (io), 4 P1.3/TXD1 (io), 5 P1.4/INT2 (io), 6 P1.5/~{INT3} (io), 7 P1.6/INT4 (io), 8 P1.7/~{INT5} (io), 9 RST (in), 10 P3.0/RXD0 (io), 11 P3.1/TXD0 (io), 12 P3.2/~{INT0} (io), 13 P3.3/~{INT1} (io), 14 P3.4/T0 (io), 15 P3.5/T1 (io), 16 P3.6/~{WR} (io), 17 P3.7/~{RD} (io), 18 XTAL2 (out), 19 XTAL1 (in), 21 P2.0(A8) (io), 22 P2.1(A9) (io), 23 P2.2(A10) (io), 24 P2.3(A11) (io), 25 P2.4(A12) (io), 26 P2.5(A13) (io), 27 P2.6(A14) (io), 28 P2.7(A15) (io), 29 ~{PSEN} (out), 30 ALE (out), 31 ~{EA} (in), 32 P0.7(AD7) (io), 33 P0.6(AD6) (io), 34 P0.5(AD5) (io), 35 P0.4(AD4) (io), 36 P0.3(AD3) (io), 37 P0.2(AD2) (io), 38 P0.1(AD1) (io), 39 P0.0(AD0) (io)
part B pins: 20 GND (power), 40 VCC (power)

## DS87C520-MNL
designator U?
8-bit EPROM/ROM High-Speed Microcontroller, 33 MHz Max. Clock Speed, 40-pin Plastic DIP, -40° to + 85° C; DatasheetVersion: 1/05/2009; PackageVersion: revD, 2011; PackageReference: P40-4; PackageDescription: 40-Pin Plastic Dual-In-Line, 0.6in Wide, PDIP(W); Code_JEDEC: MS-011-AC; ComponentLink1Description: Manufacturer URL; ComponentLink1URL: www.maxim-ic.com; ComponentLink2Description: Datasheet; ComponentLink2URL: http://datasheets.maxim-ic.com/en/ds/DS83C520-DS87C520.pdf
footprint P40-4 (DIP, 40-Leads, Row Spacing 15.24mm, Pitch 2.54mm, Body 52.1x14mm)
part A pins: 1 P1.0/T2 (io), 2 P1.1/T2EX (io), 3 P1.2/RXD1 (io), 4 P1.3/TXD1 (io), 5 P1.4/INT2 (io), 6 P1.5/~{INT3} (io), 7 P1.6/INT4 (io), 8 P1.7/~{INT5} (io), 9 RST (in), 10 P3.0/RXD0 (io), 11 P3.1/TXD0 (io), 12 P3.2/~{INT0} (io), 13 P3.3/~{INT1} (io), 14 P3.4/T0 (io), 15 P3.5/T1 (io), 16 P3.6/~{WR} (io), 17 P3.7/~{RD} (io), 18 XTAL2 (out), 19 XTAL1 (in), 21 P2.0(A8) (io), 22 P2.1(A9) (io), 23 P2.2(A10) (io), 24 P2.3(A11) (io), 25 P2.4(A12) (io), 26 P2.5(A13) (io), 27 P2.6(A14) (io), 28 P2.7(A15) (io), 29 ~{PSEN} (out), 30 ALE (out), 31 ~{EA} (in), 32 P0.7(AD7) (io), 33 P0.6(AD6) (io), 34 P0.5(AD5) (io), 35 P0.4(AD4) (io), 36 P0.3(AD3) (io), 37 P0.2(AD2) (io), 38 P0.1(AD1) (io), 39 P0.0(AD0) (io)
part B pins: 20 GND (power), 40 VCC (power)

## DS87C520-MNL+
designator U?
8-bit EPROM/ROM High-Speed Microcontroller, 33 MHz Max. Clock Speed, 40-pin Plastic DIP, -40° to + 85° C, Pb-Free; DatasheetVersion: 1/05/2009; PackageVersion: revD, 2011; PackageReference: P40+4; PackageDescription: 40-Pin Plastic Dual-In-Line, 0.6in Wide, PDIP(W), Pb-Free; Code_JEDEC: MS-011-AC; ComponentLink1Description: Manufacturer URL; ComponentLink1URL: www.maxim-ic.com; ComponentLink2Description: Datasheet; ComponentLink2URL: http://datasheets.maxim-ic.com/en/ds/DS83C520-DS87C520.pdf
footprint P40+4 (DIP, 40-Leads, Row Spacing 15.24mm, Pitch 2.54mm, Body 52.1x14mm)
part A pins: 1 P1.0/T2 (io), 2 P1.1/T2EX (io), 3 P1.2/RXD1 (io), 4 P1.3/TXD1 (io), 5 P1.4/INT2 (io), 6 P1.5/~{INT3} (io), 7 P1.6/INT4 (io), 8 P1.7/~{INT5} (io), 9 RST (in), 10 P3.0/RXD0 (io), 11 P3.1/TXD0 (io), 12 P3.2/~{INT0} (io), 13 P3.3/~{INT1} (io), 14 P3.4/T0 (io), 15 P3.5/T1 (io), 16 P3.6/~{WR} (io), 17 P3.7/~{RD} (io), 18 XTAL2 (out), 19 XTAL1 (in), 21 P2.0(A8) (io), 22 P2.1(A9) (io), 23 P2.2(A10) (io), 24 P2.3(A11) (io), 25 P2.4(A12) (io), 26 P2.5(A13) (io), 27 P2.6(A14) (io), 28 P2.7(A15) (io), 29 ~{PSEN} (out), 30 ALE (out), 31 ~{EA} (in), 32 P0.7(AD7) (io), 33 P0.6(AD6) (io), 34 P0.5(AD5) (io), 35 P0.4(AD4) (io), 36 P0.3(AD3) (io), 37 P0.2(AD2) (io), 38 P0.1(AD1) (io), 39 P0.0(AD0) (io)
part B pins: 20 GND (power), 40 VCC (power)